# Altium integrated library Actel SX-A.IntLib: 434 symbols (part 10 of 34)
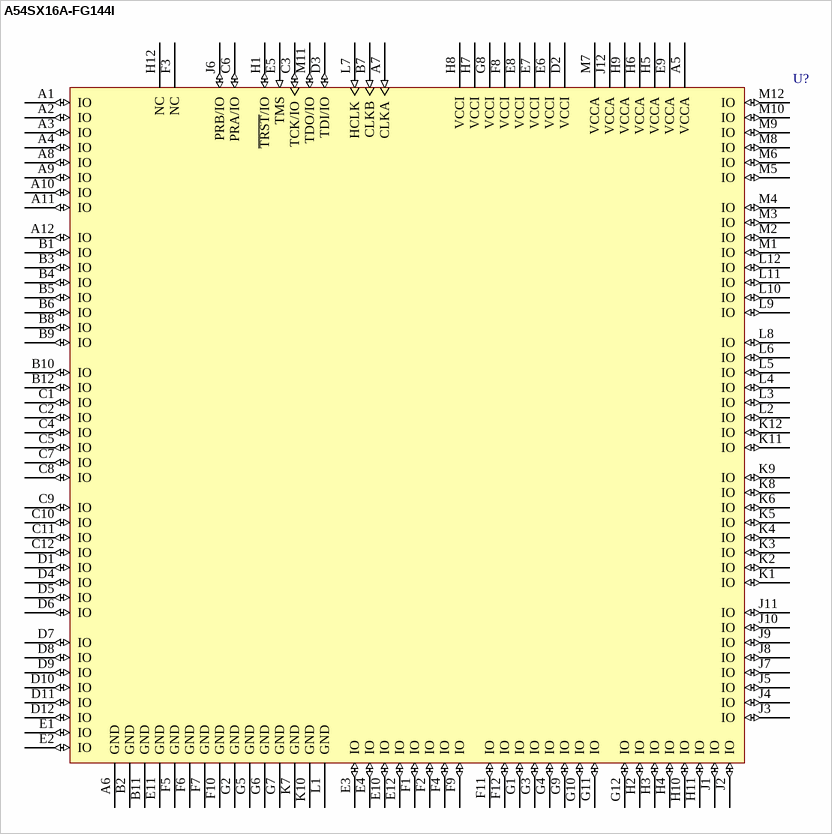
[diagram p330: symbol A54SX16A-FG144I]

## A54SX16A-FG144I
designator U?
A54SX16A FPGA, 111 User IOs, 144-Pin FBGA, Standard Speed Grade, Industrial Grade; DatasheetVersion: v5.3, Feb-2007; PackageVersion: rev39, Aug-2010; PackageReference: FG144; PackageDescription: 144-Ball Fine Pitch Plastic Ball Grid Array (FG144); Code_JEDEC: MO-192-DAD-1; ComponentLink1Description: Manufacturer URL; ComponentLink1URL: http://www.actel.com/; ComponentLink2Description: SX-A Datasheet; ComponentLink2URL: http://www.actel.com/documents/SXA_DS.pdf; ComponentLink3Description: Package Mechanical Drawings; ComponentLink3URL: http://www.actel.com/documents/PckgMechDrwngs.pdf; ComponentLink4Description: SX-A Documents; ComponentLink4URL: http://www.actel.com/products/proasicplus/docs.aspx
footprint FG144 (BGA, 144-Leads, Body 13x13mm, Pitch 1mm)
pins: A1 IO (io), A2 IO (io), A3 IO (io), A4 IO (io), A5 VCCA (power), A6 GND (power), A7 CLKA (in), A8 IO (io), A9 IO (io), A10 IO (io), A11 IO (io), A12 IO (io), B1 IO (io), B2 GND (power), B3 IO (io), B4 IO (io), B5 IO (io), B6 IO (io), B7 CLKB (in), B8 IO (io), B9 IO (io), B10 IO (io), B11 GND (power), B12 IO (io), C1 IO (io), C2 IO (io), C3 TCK/IO (io), C4 IO (io), C5 IO (io), C6 PRA/IO (io), C7 IO (io), C8 IO (io), C9 IO (io), C10 IO (io), C11 IO (io), C12 IO (io), D1 IO (io), D2 VCCI (power), D3 TDI/IO (io), D4 IO (io), D5 IO (io), D6 IO (io), D7 IO (io), D8 IO (io), D9 IO (io), D10 IO (io), D11 IO (io), D12 IO (io), E1 IO (io), E2 IO (io), E3 IO (io), E4 IO (io), E5 TMS (in), E6 VCCI (power), E7 VCCI (power), E8 VCCI (power), E9 VCCA (power), E10 IO (io), E11 GND (power), E12 IO (io), F1 IO (io), F2 IO (io), F3 NC, F4 IO (io), F5 GND (power), F6 GND (power), F7 GND (power), F8 VCCI (power), F9 IO (io), F10 GND (power), F11 IO (io), F12 IO (io), G1 IO (io), G2 GND (power), G3 IO (io), G4 IO (io), G5 GND (power), G6 GND (power), G7 GND (power), G8 VCCI (power), G9 IO (io), G10 IO (io), G11 IO (io), G12 IO (io), H1 ~{TRST}/IO (io), H2 IO (io), H3 IO (io), H4 IO (io), H5 VCCA (power), H6 VCCA (power), H7 VCCI (power), H8 VCCI (power), H9 VCCA (power), H10 IO (io), H11 IO (io), H12 NC, J1 IO (io), J2 IO (io), J3 IO (io), J4 IO (io), J5 IO (io), J6 PRB/IO (io), J7 IO (io), J8 IO (io), J9 IO (io), J10 IO (io), J11 IO (io), J12 VCCA (power), K1 IO (io), K2 IO (io), K3 IO (io), K4 IO (io), K5 IO (io), K6 IO (io), K7 GND (power), K8 IO (io), K9 IO (io), K10 GND (power), K11 IO (io), K12 IO (io), L1 GND (power), L2 IO (io), L3 IO (io), L4 IO (io), L5 IO (io), L6 IO (io), L7 HCLK (in), L8 IO (io), L9 IO (io), L10 IO (io), L11 IO (io), L12 IO (io), M1 IO (io), M2 IO (io), M3 IO (io), M4 IO (io), M5 IO (io), M6 IO (io), M7 VCCA (power), M8 IO (io), M9 IO (io), M10 IO (io), M11 TDO/IO (io), M12 IO (io)

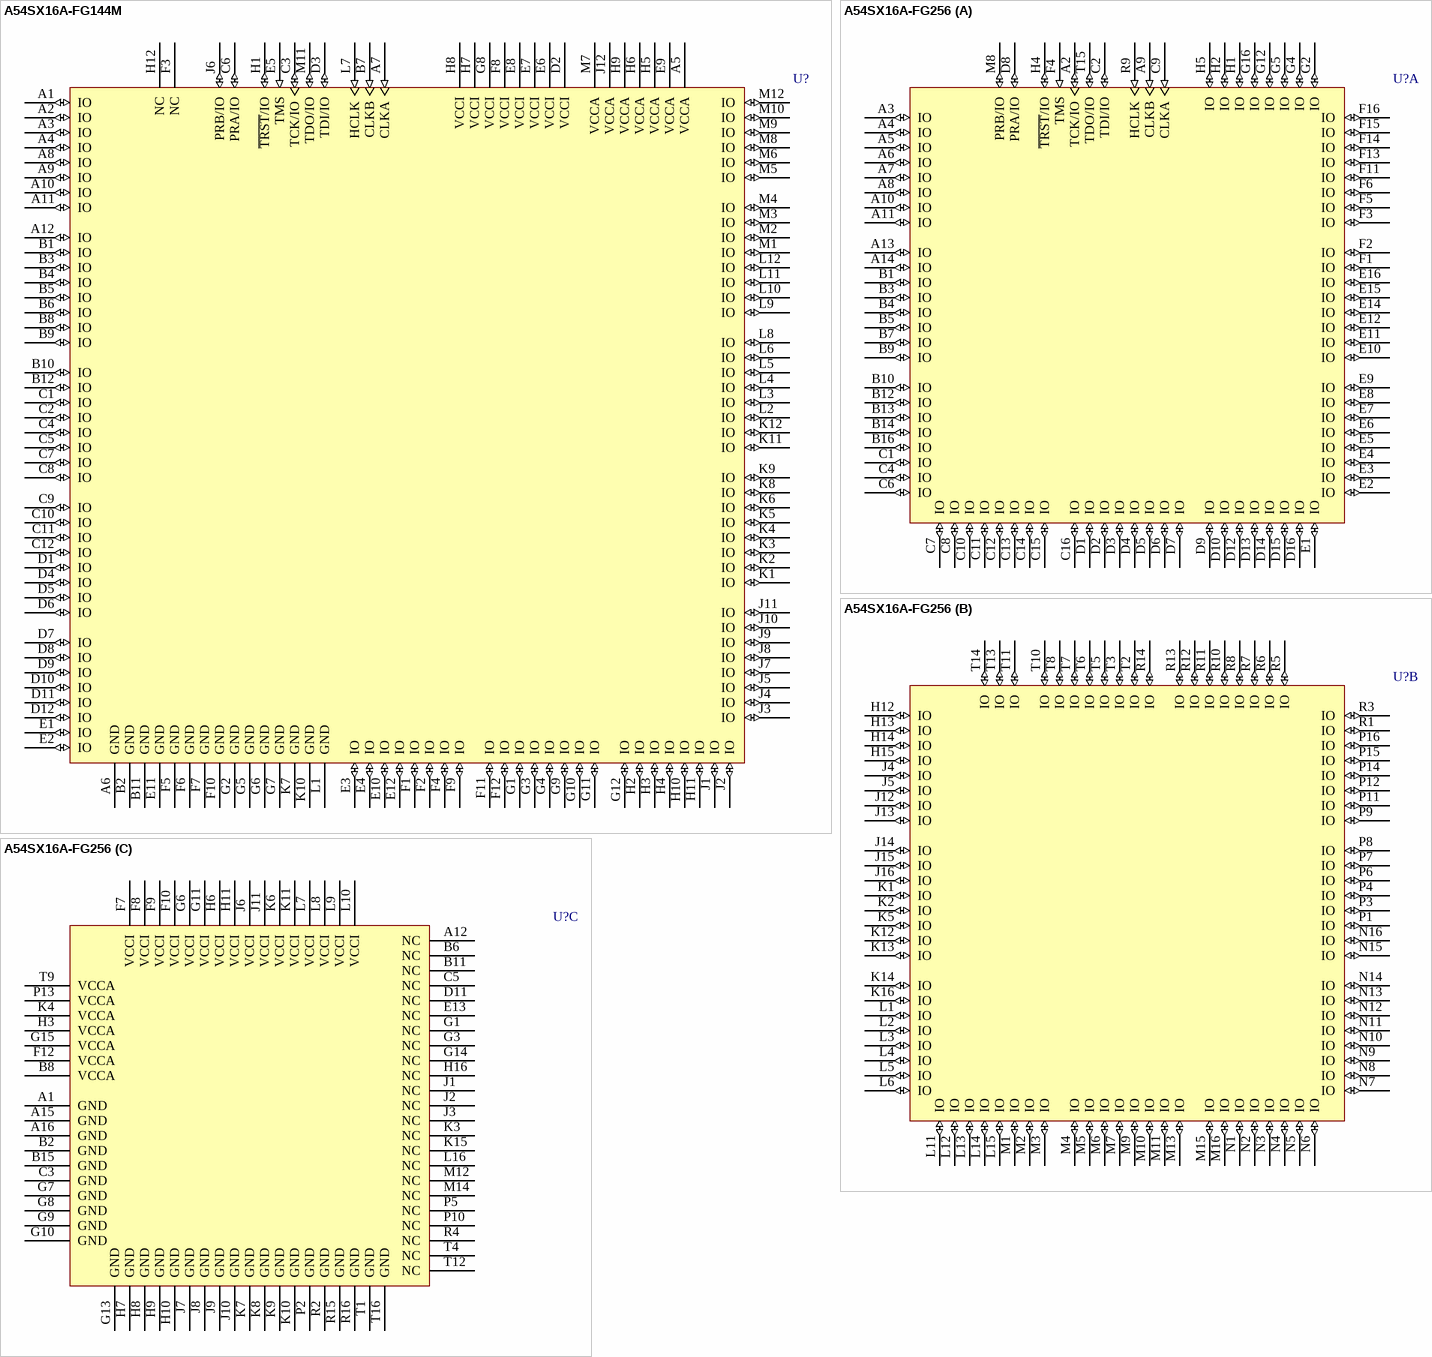
[diagram p96: symbols A54SX16A-FG144M to A54SX16A-FG256]

## A54SX16A-FG144M
designator U?
A54SX16A FPGA, 111 User IOs, 144-Pin FBGA, Standard Speed Grade, Military Grade; DatasheetVersion: v5.3, Feb-2007; PackageVersion: rev39, Aug-2010; PackageReference: FG144; PackageDescription: 144-Ball Fine Pitch Plastic Ball Grid Array (FG144); Code_JEDEC: MO-192-DAD-1; ComponentLink1Description: Manufacturer URL; ComponentLink1URL: http://www.actel.com/; ComponentLink2Description: SX-A Datasheet; ComponentLink2URL: http://www.actel.com/documents/SXA_DS.pdf; ComponentLink3Description: Package Mechanical Drawings; ComponentLink3URL: http://www.actel.com/documents/PckgMechDrwngs.pdf; ComponentLink4Description: SX-A Documents; ComponentLink4URL: http://www.actel.com/products/proasicplus/docs.aspx
footprint FG144 (BGA, 144-Leads, Body 13x13mm, Pitch 1mm)
pins: A1 IO (io), A2 IO (io), A3 IO (io), A4 IO (io), A5 VCCA (power), A6 GND (power), A7 CLKA (in), A8 IO (io), A9 IO (io), A10 IO (io), A11 IO (io), A12 IO (io), B1 IO (io), B2 GND (power), B3 IO (io), B4 IO (io), B5 IO (io), B6 IO (io), B7 CLKB (in), B8 IO (io), B9 IO (io), B10 IO (io), B11 GND (power), B12 IO (io), C1 IO (io), C2 IO (io), C3 TCK/IO (io), C4 IO (io), C5 IO (io), C6 PRA/IO (io), C7 IO (io), C8 IO (io), C9 IO (io), C10 IO (io), C11 IO (io), C12 IO (io), D1 IO (io), D2 VCCI (power), D3 TDI/IO (io), D4 IO (io), D5 IO (io), D6 IO (io), D7 IO (io), D8 IO (io), D9 IO (io), D10 IO (io), D11 IO (io), D12 IO (io), E1 IO (io), E2 IO (io), E3 IO (io), E4 IO (io), E5 TMS (in), E6 VCCI (power), E7 VCCI (power), E8 VCCI (power), E9 VCCA (power), E10 IO (io), E11 GND (power), E12 IO (io), F1 IO (io), F2 IO (io), F3 NC, F4 IO (io), F5 GND (power), F6 GND (power), F7 GND (power), F8 VCCI (power), F9 IO (io), F10 GND (power), F11 IO (io), F12 IO (io), G1 IO (io), G2 GND (power), G3 IO (io), G4 IO (io), G5 GND (power), G6 GND (power), G7 GND (power), G8 VCCI (power), G9 IO (io), G10 IO (io), G11 IO (io), G12 IO (io), H1 ~{TRST}/IO (io), H2 IO (io), H3 IO (io), H4 IO (io), H5 VCCA (power), H6 VCCA (power), H7 VCCI (power), H8 VCCI (power), H9 VCCA (power), H10 IO (io), H11 IO (io), H12 NC, J1 IO (io), J2 IO (io), J3 IO (io), J4 IO (io), J5 IO (io), J6 PRB/IO (io), J7 IO (io), J8 IO (io), J9 IO (io), J10 IO (io), J11 IO (io), J12 VCCA (power), K1 IO (io), K2 IO (io), K3 IO (io), K4 IO (io), K5 IO (io), K6 IO (io), K7 GND (power), K8 IO (io), K9 IO (io), K10 GND (power), K11 IO (io), K12 IO (io), L1 GND (power), L2 IO (io), L3 IO (io), L4 IO (io), L5 IO (io), L6 IO (io), L7 HCLK (in), L8 IO (io), L9 IO (io), L10 IO (io), L11 IO (io), L12 IO (io), M1 IO (io), M2 IO (io), M3 IO (io), M4 IO (io), M5 IO (io), M6 IO (io), M7 VCCA (power), M8 IO (io), M9 IO (io), M10 IO (io), M11 TDO/IO (io), M12 IO (io)

## A54SX16A-FG256
designator U?
A54SX16A FPGA, 180 User IOs, 256-Pin FBGA, Standard Speed Grade, Commercial Grade; DatasheetVersion: v5.3, Feb-2007; PackageVersion: rev39, Aug-2010; PackageReference: FBGA256; PackageDescription: 256-Ball Fine Pitch Plastic Ball Grid Array 1.00 mm Pitch (FG256); Code_JEDEC: MS-034-AAF-1; ComponentLink1Description: Manufacturer URL; ComponentLink1URL: http://www.actel.com/; ComponentLink2Description: SX-A Datasheet; ComponentLink2URL: http://www.actel.com/documents/SXA_DS.pdf; ComponentLink3Description: Package Mechanical Drawings; ComponentLink3URL: http://www.actel.com/documents/PckgMechDrwngs.pdf; ComponentLink4Description: SX-A Documents; ComponentLink4URL: http://www.actel.com/products/proasicplus/docs.aspx
footprint FBGA256 (BGA, 256-Leads, Body 17x17mm, Pitch 1mm)
part A pins: A2 TCK/IO (io), A3 IO (io), A4 IO (io), A5 IO (io), A6 IO (io), A7 IO (io), A8 IO (io), A9 CLKB (in), A10 IO (io), A11 IO (io), A13 IO (io), A14 IO (io), B1 IO (io), B3 IO (io), B4 IO (io), B5 IO (io), B7 IO (io), B9 IO (io), B10 IO (io), B12 IO (io), B13 IO (io), B14 IO (io), B16 IO (io), C1 IO (io), C2 TDI/IO (io), C4 IO (io), C6 IO (io), C7 IO (io), C8 IO (io), C9 CLKA (in), C10 IO (io), C11 IO (io), C12 IO (io), C13 IO (io), C14 IO (io), C15 IO (io), C16 IO (io), D1 IO (io), D2 IO (io), D3 IO (io), D4 IO (io), D5 IO (io), D6 IO (io), D7 IO (io), D8 PRA/IO (io), D9 IO (io), D10 IO (io), D12 IO (io), D13 IO (io), D14 IO (io), D15 IO (io), D16 IO (io), E1 IO (io), E2 IO (io), E3 IO (io), E4 IO (io), E5 IO (io), E6 IO (io), E7 IO (io), E8 IO (io), E9 IO (io), E10 IO (io), E11 IO (io), E12 IO (io), E14 IO (io), E15 IO (io), E16 IO (io), F1 IO (io), F2 IO (io), F3 IO (io), F4 TMS (in), F5 IO (io), F6 IO (io), F11 IO (io), F13 IO (io), F14 IO (io), F15 IO (io), F16 IO (io), G2 IO (io), G4 IO (io), G5 IO (io), G12 IO (io), G16 IO (io), H1 IO (io), H2 IO (io), H4 ~{TRST}/IO (io), H5 IO (io), M8 PRB/IO (io), R9 HCLK (in), T15 TDO/IO (io)
part B pins: H12 IO (io), H13 IO (io), H14 IO (io), H15 IO (io), J4 IO (io), J5 IO (io), J12 IO (io), J13 IO (io), J14 IO (io), J15 IO (io), J16 IO (io), K1 IO (io), K2 IO (io), K5 IO (io), K12 IO (io), K13 IO (io), K14 IO (io), K16 IO (io), L1 IO (io), L2 IO (io), L3 IO (io), L4 IO (io), L5 IO (io), L6 IO (io), L11 IO (io), L12 IO (io), L13 IO (io), L14 IO (io), L15 IO (io), M1 IO (io), M2 IO (io), M3 IO (io), M4 IO (io), M5 IO (io), M6 IO (io), M7 IO (io), M9 IO (io), M10 IO (io), M11 IO (io), M13 IO (io), M15 IO (io), M16 IO (io), N1 IO (io), N2 IO (io), N3 IO (io), N4 IO (io), N5 IO (io), N6 IO (io), N7 IO (io), N8 IO (io), N9 IO (io), N10 IO (io), N11 IO (io), N12 IO (io), N13 IO (io), N14 IO (io), N15 IO (io), N16 IO (io), P1 IO (io), P3 IO (io), P4 IO (io), P6 IO (io), P7 IO (io), P8 IO (io), P9 IO (io), P11 IO (io), P12 IO (io), P14 IO (io), P15 IO (io), P16 IO (io), R1 IO (io), R3 IO (io), R5 IO (io), R6 IO (io), R7 IO (io), R8 IO (io), R10 IO (io), R11 IO (io), R12 IO (io), R13 IO (io), R14 IO (io), T2 IO (io), T3 IO (io), T5 IO (io), T6 IO (io), T7 IO (io), T8 IO (io), T10 IO (io), T11 IO (io), T13 IO (io), T14 IO (io)
part C pins: A1 GND (power), A12 NC, A15 GND (power), A16 GND (power), B2 GND (power), B6 NC, B8 VCCA (power), B11 NC, B15 GND (power), C3 GND (power), C5 NC, D11 NC, E13 NC, F7 VCCI (power), F8 VCCI (power), F9 VCCI (power), F10 VCCI (power), F12 VCCA (power), G1 NC, G3 NC, G6 VCCI (power), G7 GND (power), G8 GND (power), G9 GND (power), G10 GND (power), G11 VCCI (power), G13 GND (power), G14 NC, G15 VCCA (power), H3 VCCA (power), H6 VCCI (power), H7 GND (power), H8 GND (power), H9 GND (power), H10 GND (power), H11 VCCI (power), H16 NC, J1 NC, J2 NC, J3 NC, J6 VCCI (power), J7 GND (power), J8 GND (power), J9 GND (power), J10 GND (power), J11 VCCI (power), K3 NC, K4 VCCA (power), K6 VCCI (power), K7 GND (power), K8 GND (power), K9 GND (power), K10 GND (power), K11 VCCI (power), K15 NC, L7 VCCI (power), L8 VCCI (power), L9 VCCI (power), L10 VCCI (power), L16 NC, M12 NC, M14 NC, P2 GND (power), P5 NC, P10 NC, P13 VCCA (power), R2 GND (power), R4 NC, R15 GND (power), R16 GND (power), T1 GND (power), T4 NC, T9 VCCA (power), T12 NC, T16 GND (power)

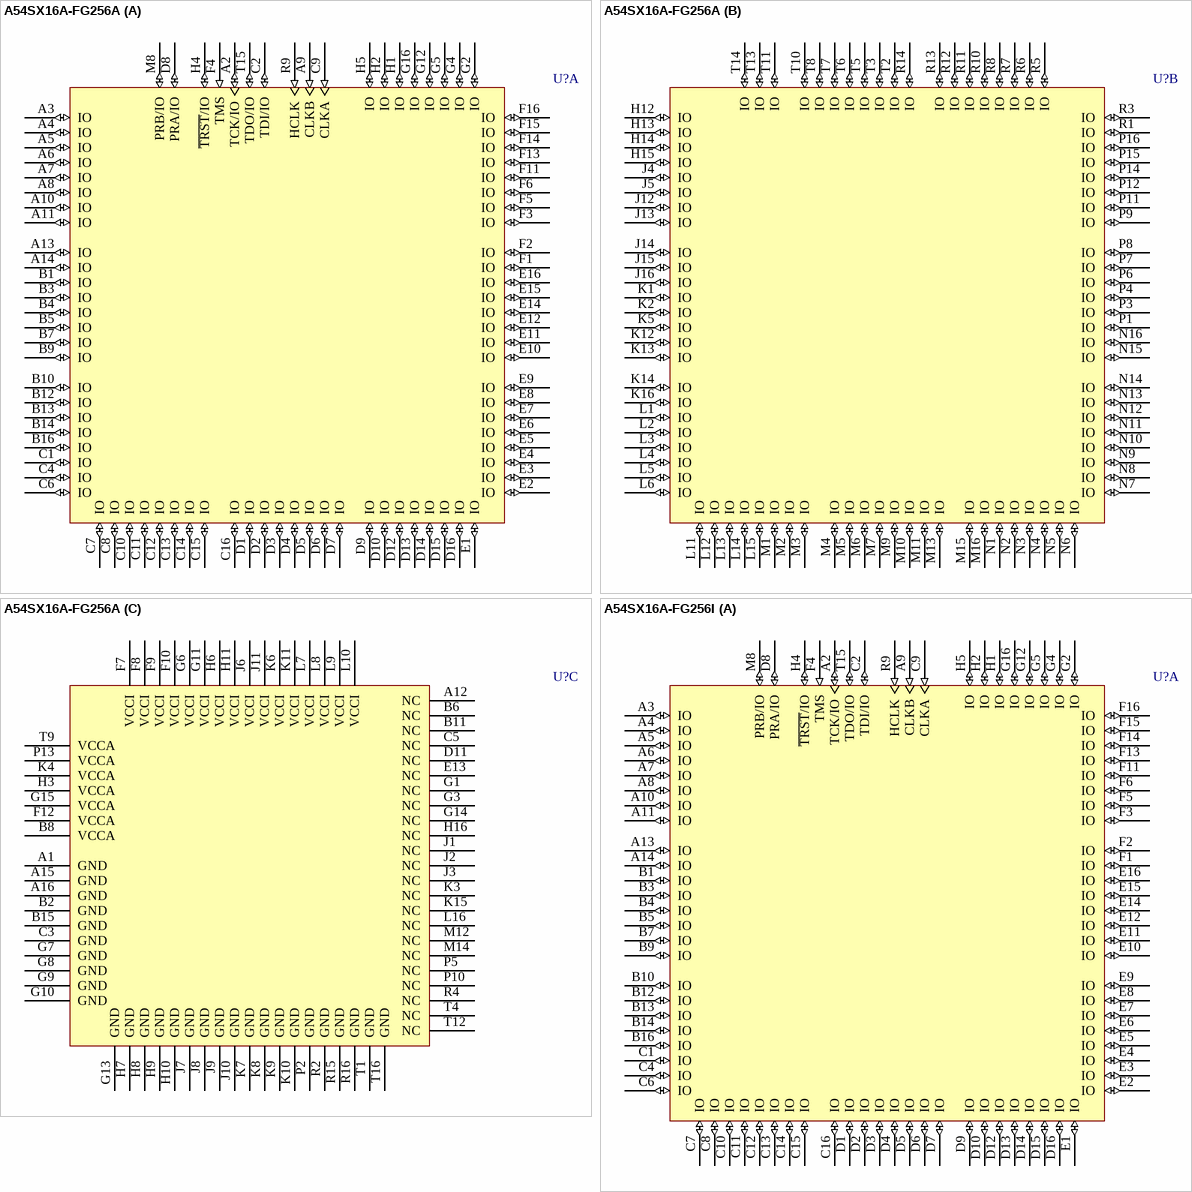
[diagram p97: symbols A54SX16A-FG256A to A54SX16A-FG256I]

## A54SX16A-FG256A
designator U?
A54SX16A FPGA, 180 User IOs, 256-Pin FBGA, Standard Speed Grade, Automotive Grade; DatasheetVersion: v5.3, Feb-2007; PackageVersion: rev39, Aug-2010; PackageReference: FBGA256; PackageDescription: 256-Ball Fine Pitch Plastic Ball Grid Array 1.00 mm Pitch (FG256); Code_JEDEC: MS-034-AAF-1; ComponentLink1Description: Manufacturer URL; ComponentLink1URL: http://www.actel.com/; ComponentLink2Description: SX-A Datasheet; ComponentLink2URL: http://www.actel.com/documents/SXA_DS.pdf; ComponentLink3Description: Package Mechanical Drawings; ComponentLink3URL: http://www.actel.com/documents/PckgMechDrwngs.pdf; ComponentLink4Description: SX-A Documents; ComponentLink4URL: http://www.actel.com/products/proasicplus/docs.aspx
footprint FBGA256 (BGA, 256-Leads, Body 17x17mm, Pitch 1mm)
part A pins: A2 TCK/IO (io), A3 IO (io), A4 IO (io), A5 IO (io), A6 IO (io), A7 IO (io), A8 IO (io), A9 CLKB (in), A10 IO (io), A11 IO (io), A13 IO (io), A14 IO (io), B1 IO (io), B3 IO (io), B4 IO (io), B5 IO (io), B7 IO (io), B9 IO (io), B10 IO (io), B12 IO (io), B13 IO (io), B14 IO (io), B16 IO (io), C1 IO (io), C2 TDI/IO (io), C4 IO (io), C6 IO (io), C7 IO (io), C8 IO (io), C9 CLKA (in), C10 IO (io), C11 IO (io), C12 IO (io), C13 IO (io), C14 IO (io), C15 IO (io), C16 IO (io), D1 IO (io), D2 IO (io), D3 IO (io), D4 IO (io), D5 IO (io), D6 IO (io), D7 IO (io), D8 PRA/IO (io), D9 IO (io), D10 IO (io), D12 IO (io), D13 IO (io), D14 IO (io), D15 IO (io), D16 IO (io), E1 IO (io), E2 IO (io), E3 IO (io), E4 IO (io), E5 IO (io), E6 IO (io), E7 IO (io), E8 IO (io), E9 IO (io), E10 IO (io), E11 IO (io), E12 IO (io), E14 IO (io), E15 IO (io), E16 IO (io), F1 IO (io), F2 IO (io), F3 IO (io), F4 TMS (in), F5 IO (io), F6 IO (io), F11 IO (io), F13 IO (io), F14 IO (io), F15 IO (io), F16 IO (io), G2 IO (io), G4 IO (io), G5 IO (io), G12 IO (io), G16 IO (io), H1 IO (io), H2 IO (io), H4 ~{TRST}/IO (io), H5 IO (io), M8 PRB/IO (io), R9 HCLK (in), T15 TDO/IO (io)
part B pins: H12 IO (io), H13 IO (io), H14 IO (io), H15 IO (io), J4 IO (io), J5 IO (io), J12 IO (io), J13 IO (io), J14 IO (io), J15 IO (io), J16 IO (io), K1 IO (io), K2 IO (io), K5 IO (io), K12 IO (io), K13 IO (io), K14 IO (io), K16 IO (io), L1 IO (io), L2 IO (io), L3 IO (io), L4 IO (io), L5 IO (io), L6 IO (io), L11 IO (io), L12 IO (io), L13 IO (io), L14 IO (io), L15 IO (io), M1 IO (io), M2 IO (io), M3 IO (io), M4 IO (io), M5 IO (io), M6 IO (io), M7 IO (io), M9 IO (io), M10 IO (io), M11 IO (io), M13 IO (io), M15 IO (io), M16 IO (io), N1 IO (io), N2 IO (io), N3 IO (io), N4 IO (io), N5 IO (io), N6 IO (io), N7 IO (io), N8 IO (io), N9 IO (io), N10 IO (io), N11 IO (io), N12 IO (io), N13 IO (io), N14 IO (io), N15 IO (io), N16 IO (io), P1 IO (io), P3 IO (io), P4 IO (io), P6 IO (io), P7 IO (io), P8 IO (io), P9 IO (io), P11 IO (io), P12 IO (io), P14 IO (io), P15 IO (io), P16 IO (io), R1 IO (io), R3 IO (io), R5 IO (io), R6 IO (io), R7 IO (io), R8 IO (io), R10 IO (io), R11 IO (io), R12 IO (io), R13 IO (io), R14 IO (io), T2 IO (io), T3 IO (io), T5 IO (io), T6 IO (io), T7 IO (io), T8 IO (io), T10 IO (io), T11 IO (io), T13 IO (io), T14 IO (io)
part C pins: A1 GND (power), A12 NC, A15 GND (power), A16 GND (power), B2 GND (power), B6 NC, B8 VCCA (power), B11 NC, B15 GND (power), C3 GND (power), C5 NC, D11 NC, E13 NC, F7 VCCI (power), F8 VCCI (power), F9 VCCI (power), F10 VCCI (power), F12 VCCA (power), G1 NC, G3 NC, G6 VCCI (power), G7 GND (power), G8 GND (power), G9 GND (power), G10 GND (power), G11 VCCI (power), G13 GND (power), G14 NC, G15 VCCA (power), H3 VCCA (power), H6 VCCI (power), H7 GND (power), H8 GND (power), H9 GND (power), H10 GND (power), H11 VCCI (power), H16 NC, J1 NC, J2 NC, J3 NC, J6 VCCI (power), J7 GND (power), J8 GND (power), J9 GND (power), J10 GND (power), J11 VCCI (power), K3 NC, K4 VCCA (power), K6 VCCI (power), K7 GND (power), K8 GND (power), K9 GND (power), K10 GND (power), K11 VCCI (power), K15 NC, L7 VCCI (power), L8 VCCI (power), L9 VCCI (power), L10 VCCI (power), L16 NC, M12 NC, M14 NC, P2 GND (power), P5 NC, P10 NC, P13 VCCA (power), R2 GND (power), R4 NC, R15 GND (power), R16 GND (power), T1 GND (power), T4 NC, T9 VCCA (power), T12 NC, T16 GND (power)

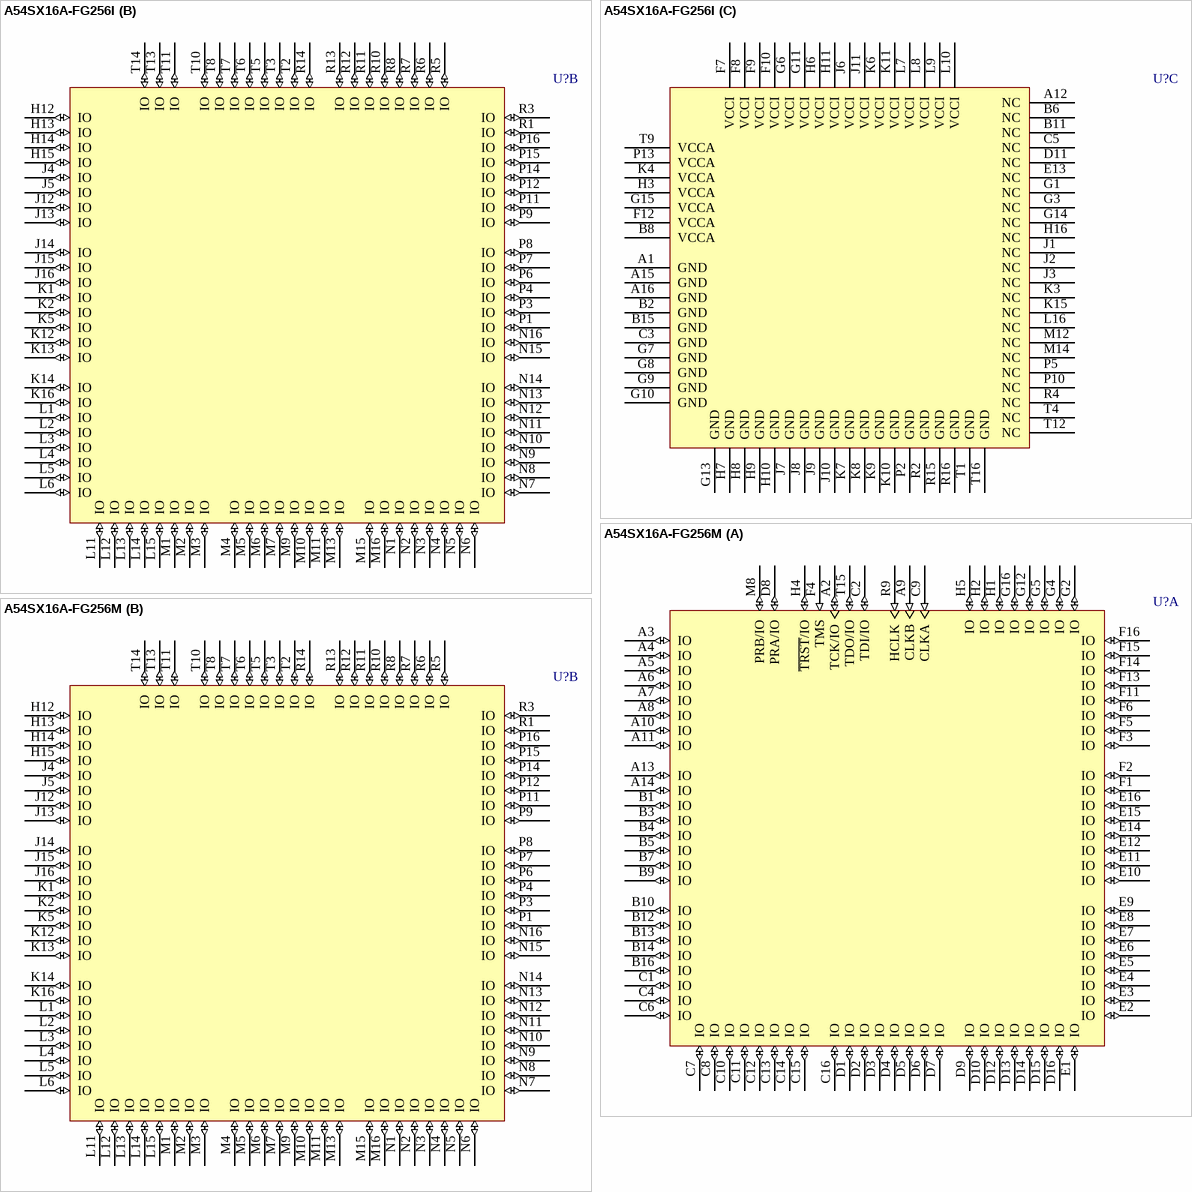
[diagram p98: symbols A54SX16A-FG256I to A54SX16A-FG256M]

## A54SX16A-FG256I
designator U?
A54SX16A FPGA, 180 User IOs, 256-Pin FBGA, Standard Speed Grade, Industrial Grade; DatasheetVersion: v5.3, Feb-2007; PackageVersion: rev39, Aug-2010; PackageReference: FBGA256; PackageDescription: 256-Ball Fine Pitch Plastic Ball Grid Array 1.00 mm Pitch (FG256); Code_JEDEC: MS-034-AAF-1; ComponentLink1Description: Manufacturer URL; ComponentLink1URL: http://www.actel.com/; ComponentLink2Description: SX-A Datasheet; ComponentLink2URL: http://www.actel.com/documents/SXA_DS.pdf; ComponentLink3Description: Package Mechanical Drawings; ComponentLink3URL: http://www.actel.com/documents/PckgMechDrwngs.pdf; ComponentLink4Description: SX-A Documents; ComponentLink4URL: http://www.actel.com/products/proasicplus/docs.aspx
footprint FBGA256 (BGA, 256-Leads, Body 17x17mm, Pitch 1mm)
part A pins: A2 TCK/IO (io), A3 IO (io), A4 IO (io), A5 IO (io), A6 IO (io), A7 IO (io), A8 IO (io), A9 CLKB (in), A10 IO (io), A11 IO (io), A13 IO (io), A14 IO (io), B1 IO (io), B3 IO (io), B4 IO (io), B5 IO (io), B7 IO (io), B9 IO (io), B10 IO (io), B12 IO (io), B13 IO (io), B14 IO (io), B16 IO (io), C1 IO (io), C2 TDI/IO (io), C4 IO (io), C6 IO (io), C7 IO (io), C8 IO (io), C9 CLKA (in), C10 IO (io), C11 IO (io), C12 IO (io), C13 IO (io), C14 IO (io), C15 IO (io), C16 IO (io), D1 IO (io), D2 IO (io), D3 IO (io), D4 IO (io), D5 IO (io), D6 IO (io), D7 IO (io), D8 PRA/IO (io), D9 IO (io), D10 IO (io), D12 IO (io), D13 IO (io), D14 IO (io), D15 IO (io), D16 IO (io), E1 IO (io), E2 IO (io), E3 IO (io), E4 IO (io), E5 IO (io), E6 IO (io), E7 IO (io), E8 IO (io), E9 IO (io), E10 IO (io), E11 IO (io), E12 IO (io), E14 IO (io), E15 IO (io), E16 IO (io), F1 IO (io), F2 IO (io), F3 IO (io), F4 TMS (in), F5 IO (io), F6 IO (io), F11 IO (io), F13 IO (io), F14 IO (io), F15 IO (io), F16 IO (io), G2 IO (io), G4 IO (io), G5 IO (io), G12 IO (io), G16 IO (io), H1 IO (io), H2 IO (io), H4 ~{TRST}/IO (io), H5 IO (io), M8 PRB/IO (io), R9 HCLK (in), T15 TDO/IO (io)
part B pins: H12 IO (io), H13 IO (io), H14 IO (io), H15 IO (io), J4 IO (io), J5 IO (io), J12 IO (io), J13 IO (io), J14 IO (io), J15 IO (io), J16 IO (io), K1 IO (io), K2 IO (io), K5 IO (io), K12 IO (io), K13 IO (io), K14 IO (io), K16 IO (io), L1 IO (io), L2 IO (io), L3 IO (io), L4 IO (io), L5 IO (io), L6 IO (io), L11 IO (io), L12 IO (io), L13 IO (io), L14 IO (io), L15 IO (io), M1 IO (io), M2 IO (io), M3 IO (io), M4 IO (io), M5 IO (io), M6 IO (io), M7 IO (io), M9 IO (io), M10 IO (io), M11 IO (io), M13 IO (io), M15 IO (io), M16 IO (io), N1 IO (io), N2 IO (io), N3 IO (io), N4 IO (io), N5 IO (io), N6 IO (io), N7 IO (io), N8 IO (io), N9 IO (io), N10 IO (io), N11 IO (io), N12 IO (io), N13 IO (io), N14 IO (io), N15 IO (io), N16 IO (io), P1 IO (io), P3 IO (io), P4 IO (io), P6 IO (io), P7 IO (io), P8 IO (io), P9 IO (io), P11 IO (io), P12 IO (io), P14 IO (io), P15 IO (io), P16 IO (io), R1 IO (io), R3 IO (io), R5 IO (io), R6 IO (io), R7 IO (io), R8 IO (io), R10 IO (io), R11 IO (io), R12 IO (io), R13 IO (io), R14 IO (io), T2 IO (io), T3 IO (io), T5 IO (io), T6 IO (io), T7 IO (io), T8 IO (io), T10 IO (io), T11 IO (io), T13 IO (io), T14 IO (io)
part C pins: A1 GND (power), A12 NC, A15 GND (power), A16 GND (power), B2 GND (power), B6 NC, B8 VCCA (power), B11 NC, B15 GND (power), C3 GND (power), C5 NC, D11 NC, E13 NC, F7 VCCI (power), F8 VCCI (power), F9 VCCI (power), F10 VCCI (power), F12 VCCA (power), G1 NC, G3 NC, G6 VCCI (power), G7 GND (power), G8 GND (power), G9 GND (power), G10 GND (power), G11 VCCI (power), G13 GND (power), G14 NC, G15 VCCA (power), H3 VCCA (power), H6 VCCI (power), H7 GND (power), H8 GND (power), H9 GND (power), H10 GND (power), H11 VCCI (power), H16 NC, J1 NC, J2 NC, J3 NC, J6 VCCI (power), J7 GND (power), J8 GND (power), J9 GND (power), J10 GND (power), J11 VCCI (power), K3 NC, K4 VCCA (power), K6 VCCI (power), K7 GND (power), K8 GND (power), K9 GND (power), K10 GND (power), K11 VCCI (power), K15 NC, L7 VCCI (power), L8 VCCI (power), L9 VCCI (power), L10 VCCI (power), L16 NC, M12 NC, M14 NC, P2 GND (power), P5 NC, P10 NC, P13 VCCA (power), R2 GND (power), R4 NC, R15 GND (power), R16 GND (power), T1 GND (power), T4 NC, T9 VCCA (power), T12 NC, T16 GND (power)

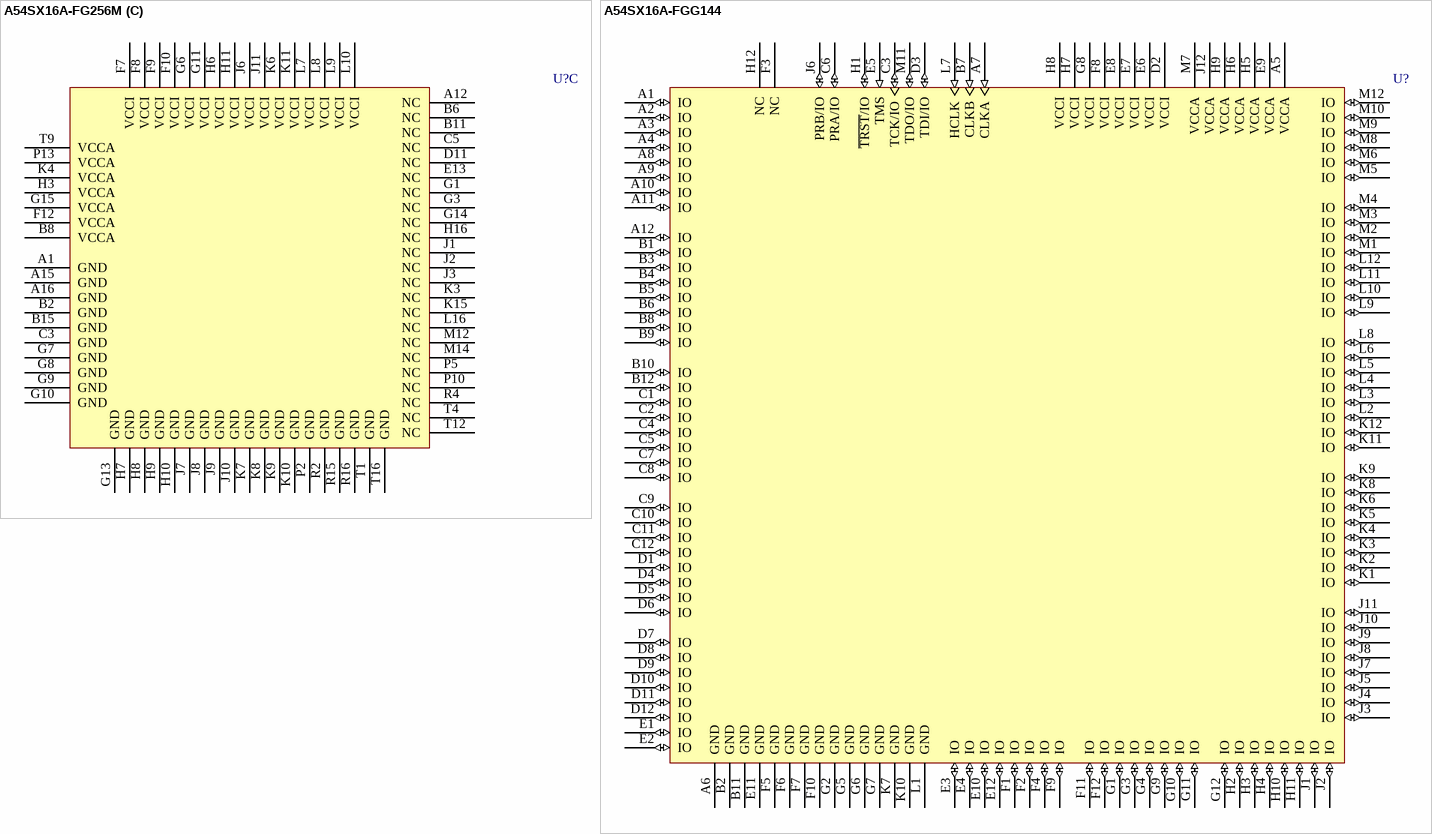
[diagram p99: symbols A54SX16A-FG256M to A54SX16A-FGG144]

## A54SX16A-FG256M
designator U?
A54SX16A FPGA, 180 User IOs, 256-Pin FBGA, Standard Speed Grade, Military Grade; DatasheetVersion: v5.3, Feb-2007; PackageVersion: rev39, Aug-2010; PackageReference: FBGA256; PackageDescription: 256-Ball Fine Pitch Plastic Ball Grid Array 1.00 mm Pitch (FG256); Code_JEDEC: MS-034-AAF-1; ComponentLink1Description: Manufacturer URL; ComponentLink1URL: http://www.actel.com/; ComponentLink2Description: SX-A Datasheet; ComponentLink2URL: http://www.actel.com/documents/SXA_DS.pdf; ComponentLink3Description: Package Mechanical Drawings; ComponentLink3URL: http://www.actel.com/documents/PckgMechDrwngs.pdf; ComponentLink4Description: SX-A Documents; ComponentLink4URL: http://www.actel.com/products/proasicplus/docs.aspx
footprint FBGA256 (BGA, 256-Leads, Body 17x17mm, Pitch 1mm)
part A pins: A2 TCK/IO (io), A3 IO (io), A4 IO (io), A5 IO (io), A6 IO (io), A7 IO (io), A8 IO (io), A9 CLKB (in), A10 IO (io), A11 IO (io), A13 IO (io), A14 IO (io), B1 IO (io), B3 IO (io), B4 IO (io), B5 IO (io), B7 IO (io), B9 IO (io), B10 IO (io), B12 IO (io), B13 IO (io), B14 IO (io), B16 IO (io), C1 IO (io), C2 TDI/IO (io), C4 IO (io), C6 IO (io), C7 IO (io), C8 IO (io), C9 CLKA (in), C10 IO (io), C11 IO (io), C12 IO (io), C13 IO (io), C14 IO (io), C15 IO (io), C16 IO (io), D1 IO (io), D2 IO (io), D3 IO (io), D4 IO (io), D5 IO (io), D6 IO (io), D7 IO (io), D8 PRA/IO (io), D9 IO (io), D10 IO (io), D12 IO (io), D13 IO (io), D14 IO (io), D15 IO (io), D16 IO (io), E1 IO (io), E2 IO (io), E3 IO (io), E4 IO (io), E5 IO (io), E6 IO (io), E7 IO (io), E8 IO (io), E9 IO (io), E10 IO (io), E11 IO (io), E12 IO (io), E14 IO (io), E15 IO (io), E16 IO (io), F1 IO (io), F2 IO (io), F3 IO (io), F4 TMS (in), F5 IO (io), F6 IO (io), F11 IO (io), F13 IO (io), F14 IO (io), F15 IO (io), F16 IO (io), G2 IO (io), G4 IO (io), G5 IO (io), G12 IO (io), G16 IO (io), H1 IO (io), H2 IO (io), H4 ~{TRST}/IO (io), H5 IO (io), M8 PRB/IO (io), R9 HCLK (in), T15 TDO/IO (io)
part B pins: H12 IO (io), H13 IO (io), H14 IO (io), H15 IO (io), J4 IO (io), J5 IO (io), J12 IO (io), J13 IO (io), J14 IO (io), J15 IO (io), J16 IO (io), K1 IO (io), K2 IO (io), K5 IO (io), K12 IO (io), K13 IO (io), K14 IO (io), K16 IO (io), L1 IO (io), L2 IO (io), L3 IO (io), L4 IO (io), L5 IO (io), L6 IO (io), L11 IO (io), L12 IO (io), L13 IO (io), L14 IO (io), L15 IO (io), M1 IO (io), M2 IO (io), M3 IO (io), M4 IO (io), M5 IO (io), M6 IO (io), M7 IO (io), M9 IO (io), M10 IO (io), M11 IO (io), M13 IO (io), M15 IO (io), M16 IO (io), N1 IO (io), N2 IO (io), N3 IO (io), N4 IO (io), N5 IO (io), N6 IO (io), N7 IO (io), N8 IO (io), N9 IO (io), N10 IO (io), N11 IO (io), N12 IO (io), N13 IO (io), N14 IO (io), N15 IO (io), N16 IO (io), P1 IO (io), P3 IO (io), P4 IO (io), P6 IO (io), P7 IO (io), P8 IO (io), P9 IO (io), P11 IO (io), P12 IO (io), P14 IO (io), P15 IO (io), P16 IO (io), R1 IO (io), R3 IO (io), R5 IO (io), R6 IO (io), R7 IO (io), R8 IO (io), R10 IO (io), R11 IO (io), R12 IO (io), R13 IO (io), R14 IO (io), T2 IO (io), T3 IO (io), T5 IO (io), T6 IO (io), T7 IO (io), T8 IO (io), T10 IO (io), T11 IO (io), T13 IO (io), T14 IO (io)
part C pins: A1 GND (power), A12 NC, A15 GND (power), A16 GND (power), B2 GND (power), B6 NC, B8 VCCA (power), B11 NC, B15 GND (power), C3 GND (power), C5 NC, D11 NC, E13 NC, F7 VCCI (power), F8 VCCI (power), F9 VCCI (power), F10 VCCI (power), F12 VCCA (power), G1 NC, G3 NC, G6 VCCI (power), G7 GND (power), G8 GND (power), G9 GND (power), G10 GND (power), G11 VCCI (power), G13 GND (power), G14 NC, G15 VCCA (power), H3 VCCA (power), H6 VCCI (power), H7 GND (power), H8 GND (power), H9 GND (power), H10 GND (power), H11 VCCI (power), H16 NC, J1 NC, J2 NC, J3 NC, J6 VCCI (power), J7 GND (power), J8 GND (power), J9 GND (power), J10 GND (power), J11 VCCI (power), K3 NC, K4 VCCA (power), K6 VCCI (power), K7 GND (power), K8 GND (power), K9 GND (power), K10 GND (power), K11 VCCI (power), K15 NC, L7 VCCI (power), L8 VCCI (power), L9 VCCI (power), L10 VCCI (power), L16 NC, M12 NC, M14 NC, P2 GND (power), P5 NC, P10 NC, P13 VCCA (power), R2 GND (power), R4 NC, R15 GND (power), R16 GND (power), T1 GND (power), T4 NC, T9 VCCA (power), T12 NC, T16 GND (power)

## A54SX16A-FGG144
designator U?
A54SX16A FPGA, 111 User IOs, 144-Pin FBGA, Standard Speed Grade, Commercial Grade, Pb-Free; DatasheetVersion: v5.3, Feb-2007; PackageVersion: rev39, Aug-2010; PackageReference: FG144; PackageDescription: 144-Ball Fine Pitch Plastic Ball Grid Array (FG144); Code_JEDEC: MO-192-DAD-1; ComponentLink1Description: Manufacturer URL; ComponentLink1URL: http://www.actel.com/; ComponentLink2Description: SX-A Datasheet; ComponentLink2URL: http://www.actel.com/documents/SXA_DS.pdf; ComponentLink3Description: Package Mechanical Drawings; ComponentLink3URL: http://www.actel.com/documents/PckgMechDrwngs.pdf; ComponentLink4Description: SX-A Documents; ComponentLink4URL: http://www.actel.com/products/proasicplus/docs.aspx
footprint FG144 (BGA, 144-Leads, Body 13x13mm, Pitch 1mm)
pins: A1 IO (io), A2 IO (io), A3 IO (io), A4 IO (io), A5 VCCA (power), A6 GND (power), A7 CLKA (in), A8 IO (io), A9 IO (io), A10 IO (io), A11 IO (io), A12 IO (io), B1 IO (io), B2 GND (power), B3 IO (io), B4 IO (io), B5 IO (io), B6 IO (io), B7 CLKB (in), B8 IO (io), B9 IO (io), B10 IO (io), B11 GND (power), B12 IO (io), C1 IO (io), C2 IO (io), C3 TCK/IO (io), C4 IO (io), C5 IO (io), C6 PRA/IO (io), C7 IO (io), C8 IO (io), C9 IO (io), C10 IO (io), C11 IO (io), C12 IO (io), D1 IO (io), D2 VCCI (power), D3 TDI/IO (io), D4 IO (io), D5 IO (io), D6 IO (io), D7 IO (io), D8 IO (io), D9 IO (io), D10 IO (io), D11 IO (io), D12 IO (io), E1 IO (io), E2 IO (io), E3 IO (io), E4 IO (io), E5 TMS (in), E6 VCCI (power), E7 VCCI (power), E8 VCCI (power), E9 VCCA (power), E10 IO (io), E11 GND (power), E12 IO (io), F1 IO (io), F2 IO (io), F3 NC, F4 IO (io), F5 GND (power), F6 GND (power), F7 GND (power), F8 VCCI (power), F9 IO (io), F10 GND (power), F11 IO (io), F12 IO (io), G1 IO (io), G2 GND (power), G3 IO (io), G4 IO (io), G5 GND (power), G6 GND (power), G7 GND (power), G8 VCCI (power), G9 IO (io), G10 IO (io), G11 IO (io), G12 IO (io), H1 ~{TRST}/IO (io), H2 IO (io), H3 IO (io), H4 IO (io), H5 VCCA (power), H6 VCCA (power), H7 VCCI (power), H8 VCCI (power), H9 VCCA (power), H10 IO (io), H11 IO (io), H12 NC, J1 IO (io), J2 IO (io), J3 IO (io), J4 IO (io), J5 IO (io), J6 PRB/IO (io), J7 IO (io), J8 IO (io), J9 IO (io), J10 IO (io), J11 IO (io), J12 VCCA (power), K1 IO (io), K2 IO (io), K3 IO (io), K4 IO (io), K5 IO (io), K6 IO (io), K7 GND (power), K8 IO (io), K9 IO (io), K10 GND (power), K11 IO (io), K12 IO (io), L1 GND (power), L2 IO (io), L3 IO (io), L4 IO (io), L5 IO (io), L6 IO (io), L7 HCLK (in), L8 IO (io), L9 IO (io), L10 IO (io), L11 IO (io), L12 IO (io), M1 IO (io), M2 IO (io), M3 IO (io), M4 IO (io), M5 IO (io), M6 IO (io), M7 VCCA (power), M8 IO (io), M9 IO (io), M10 IO (io), M11 TDO/IO (io), M12 IO (io)

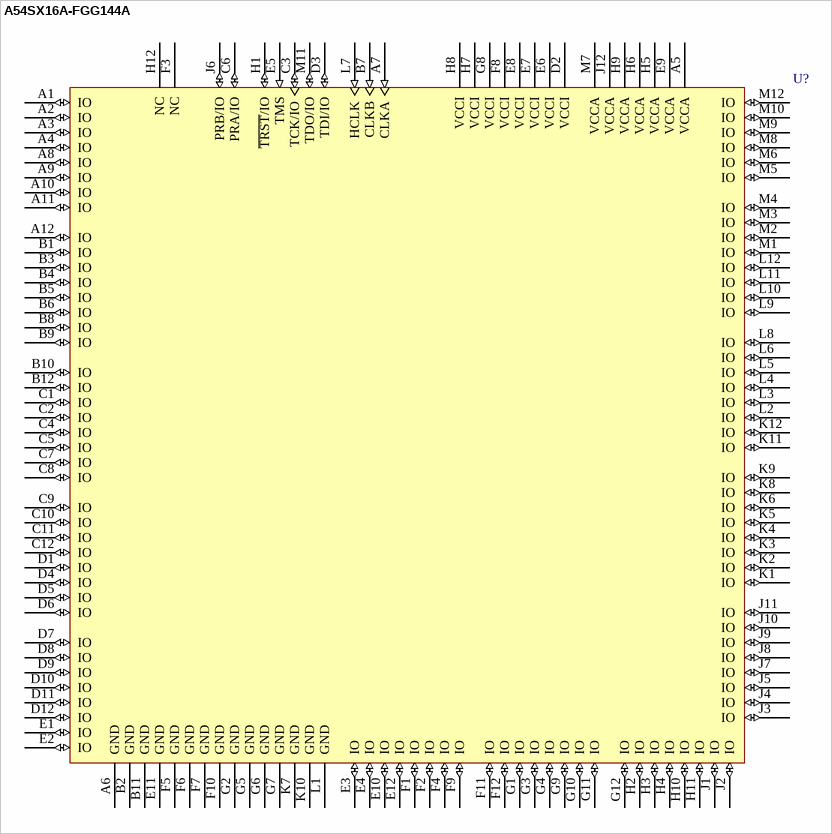
[diagram p100: symbol A54SX16A-FGG144A]

## A54SX16A-FGG144A
designator U?
A54SX16A FPGA, 111 User IOs, 144-Pin FBGA, Standard Speed Grade, Automotive Grade, Pb-Free; DatasheetVersion: v5.3, Feb-2007; PackageVersion: rev39, Aug-2010; PackageReference: FG144; PackageDescription: 144-Ball Fine Pitch Plastic Ball Grid Array (FG144); Code_JEDEC: MO-192-DAD-1; ComponentLink1Description: Manufacturer URL; ComponentLink1URL: http://www.actel.com/; ComponentLink2Description: SX-A Datasheet; ComponentLink2URL: http://www.actel.com/documents/SXA_DS.pdf; ComponentLink3Description: Package Mechanical Drawings; ComponentLink3URL: http://www.actel.com/documents/PckgMechDrwngs.pdf; ComponentLink4Description: SX-A Documents; ComponentLink4URL: http://www.actel.com/products/proasicplus/docs.aspx
footprint FG144 (BGA, 144-Leads, Body 13x13mm, Pitch 1mm)
pins: A1 IO (io), A2 IO (io), A3 IO (io), A4 IO (io), A5 VCCA (power), A6 GND (power), A7 CLKA (in), A8 IO (io), A9 IO (io), A10 IO (io), A11 IO (io), A12 IO (io), B1 IO (io), B2 GND (power), B3 IO (io), B4 IO (io), B5 IO (io), B6 IO (io), B7 CLKB (in), B8 IO (io), B9 IO (io), B10 IO (io), B11 GND (power), B12 IO (io), C1 IO (io), C2 IO (io), C3 TCK/IO (io), C4 IO (io), C5 IO (io), C6 PRA/IO (io), C7 IO (io), C8 IO (io), C9 IO (io), C10 IO (io), C11 IO (io), C12 IO (io), D1 IO (io), D2 VCCI (power), D3 TDI/IO (io), D4 IO (io), D5 IO (io), D6 IO (io), D7 IO (io), D8 IO (io), D9 IO (io), D10 IO (io), D11 IO (io), D12 IO (io), E1 IO (io), E2 IO (io), E3 IO (io), E4 IO (io), E5 TMS (in), E6 VCCI (power), E7 VCCI (power), E8 VCCI (power), E9 VCCA (power), E10 IO (io), E11 GND (power), E12 IO (io), F1 IO (io), F2 IO (io), F3 NC, F4 IO (io), F5 GND (power), F6 GND (power), F7 GND (power), F8 VCCI (power), F9 IO (io), F10 GND (power), F11 IO (io), F12 IO (io), G1 IO (io), G2 GND (power), G3 IO (io), G4 IO (io), G5 GND (power), G6 GND (power), G7 GND (power), G8 VCCI (power), G9 IO (io), G10 IO (io), G11 IO (io), G12 IO (io), H1 ~{TRST}/IO (io), H2 IO (io), H3 IO (io), H4 IO (io), H5 VCCA (power), H6 VCCA (power), H7 VCCI (power), H8 VCCI (power), H9 VCCA (power), H10 IO (io), H11 IO (io), H12 NC, J1 IO (io), J2 IO (io), J3 IO (io), J4 IO (io), J5 IO (io), J6 PRB/IO (io), J7 IO (io), J8 IO (io), J9 IO (io), J10 IO (io), J11 IO (io), J12 VCCA (power), K1 IO (io), K2 IO (io), K3 IO (io), K4 IO (io), K5 IO (io), K6 IO (io), K7 GND (power), K8 IO (io), K9 IO (io), K10 GND (power), K11 IO (io), K12 IO (io), L1 GND (power), L2 IO (io), L3 IO (io), L4 IO (io), L5 IO (io), L6 IO (io), L7 HCLK (in), L8 IO (io), L9 IO (io), L10 IO (io), L11 IO (io), L12 IO (io), M1 IO (io), M2 IO (io), M3 IO (io), M4 IO (io), M5 IO (io), M6 IO (io), M7 VCCA (power), M8 IO (io), M9 IO (io), M10 IO (io), M11 TDO/IO (io), M12 IO (io)

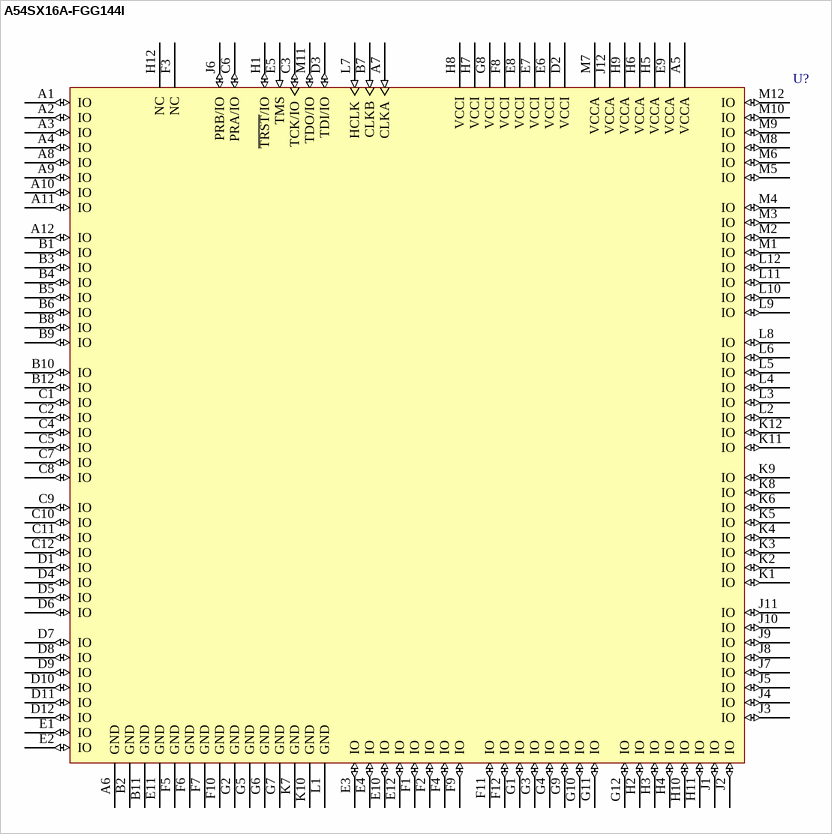
[diagram p101: symbol A54SX16A-FGG144I]

## A54SX16A-FGG144I
designator U?
A54SX16A FPGA, 111 User IOs, 144-Pin FBGA, Standard Speed Grade, Industrial Grade, Pb-Free; DatasheetVersion: v5.3, Feb-2007; PackageVersion: rev39, Aug-2010; PackageReference: FG144; PackageDescription: 144-Ball Fine Pitch Plastic Ball Grid Array (FG144); Code_JEDEC: MO-192-DAD-1; ComponentLink1Description: Manufacturer URL; ComponentLink1URL: http://www.actel.com/; ComponentLink2Description: SX-A Datasheet; ComponentLink2URL: http://www.actel.com/documents/SXA_DS.pdf; ComponentLink3Description: Package Mechanical Drawings; ComponentLink3URL: http://www.actel.com/documents/PckgMechDrwngs.pdf; ComponentLink4Description: SX-A Documents; ComponentLink4URL: http://www.actel.com/products/proasicplus/docs.aspx
footprint FG144 (BGA, 144-Leads, Body 13x13mm, Pitch 1mm)
pins: A1 IO (io), A2 IO (io), A3 IO (io), A4 IO (io), A5 VCCA (power), A6 GND (power), A7 CLKA (in), A8 IO (io), A9 IO (io), A10 IO (io), A11 IO (io), A12 IO (io), B1 IO (io), B2 GND (power), B3 IO (io), B4 IO (io), B5 IO (io), B6 IO (io), B7 CLKB (in), B8 IO (io), B9 IO (io), B10 IO (io), B11 GND (power), B12 IO (io), C1 IO (io), C2 IO (io), C3 TCK/IO (io), C4 IO (io), C5 IO (io), C6 PRA/IO (io), C7 IO (io), C8 IO (io), C9 IO (io), C10 IO (io), C11 IO (io), C12 IO (io), D1 IO (io), D2 VCCI (power), D3 TDI/IO (io), D4 IO (io), D5 IO (io), D6 IO (io), D7 IO (io), D8 IO (io), D9 IO (io), D10 IO (io), D11 IO (io), D12 IO (io), E1 IO (io), E2 IO (io), E3 IO (io), E4 IO (io), E5 TMS (in), E6 VCCI (power), E7 VCCI (power), E8 VCCI (power), E9 VCCA (power), E10 IO (io), E11 GND (power), E12 IO (io), F1 IO (io), F2 IO (io), F3 NC, F4 IO (io), F5 GND (power), F6 GND (power), F7 GND (power), F8 VCCI (power), F9 IO (io), F10 GND (power), F11 IO (io), F12 IO (io), G1 IO (io), G2 GND (power), G3 IO (io), G4 IO (io), G5 GND (power), G6 GND (power), G7 GND (power), G8 VCCI (power), G9 IO (io), G10 IO (io), G11 IO (io), G12 IO (io), H1 ~{TRST}/IO (io), H2 IO (io), H3 IO (io), H4 IO (io), H5 VCCA (power), H6 VCCA (power), H7 VCCI (power), H8 VCCI (power), H9 VCCA (power), H10 IO (io), H11 IO (io), H12 NC, J1 IO (io), J2 IO (io), J3 IO (io), J4 IO (io), J5 IO (io), J6 PRB/IO (io), J7 IO (io), J8 IO (io), J9 IO (io), J10 IO (io), J11 IO (io), J12 VCCA (power), K1 IO (io), K2 IO (io), K3 IO (io), K4 IO (io), K5 IO (io), K6 IO (io), K7 GND (power), K8 IO (io), K9 IO (io), K10 GND (power), K11 IO (io), K12 IO (io), L1 GND (power), L2 IO (io), L3 IO (io), L4 IO (io), L5 IO (io), L6 IO (io), L7 HCLK (in), L8 IO (io), L9 IO (io), L10 IO (io), L11 IO (io), L12 IO (io), M1 IO (io), M2 IO (io), M3 IO (io), M4 IO (io), M5 IO (io), M6 IO (io), M7 VCCA (power), M8 IO (io), M9 IO (io), M10 IO (io), M11 TDO/IO (io), M12 IO (io)

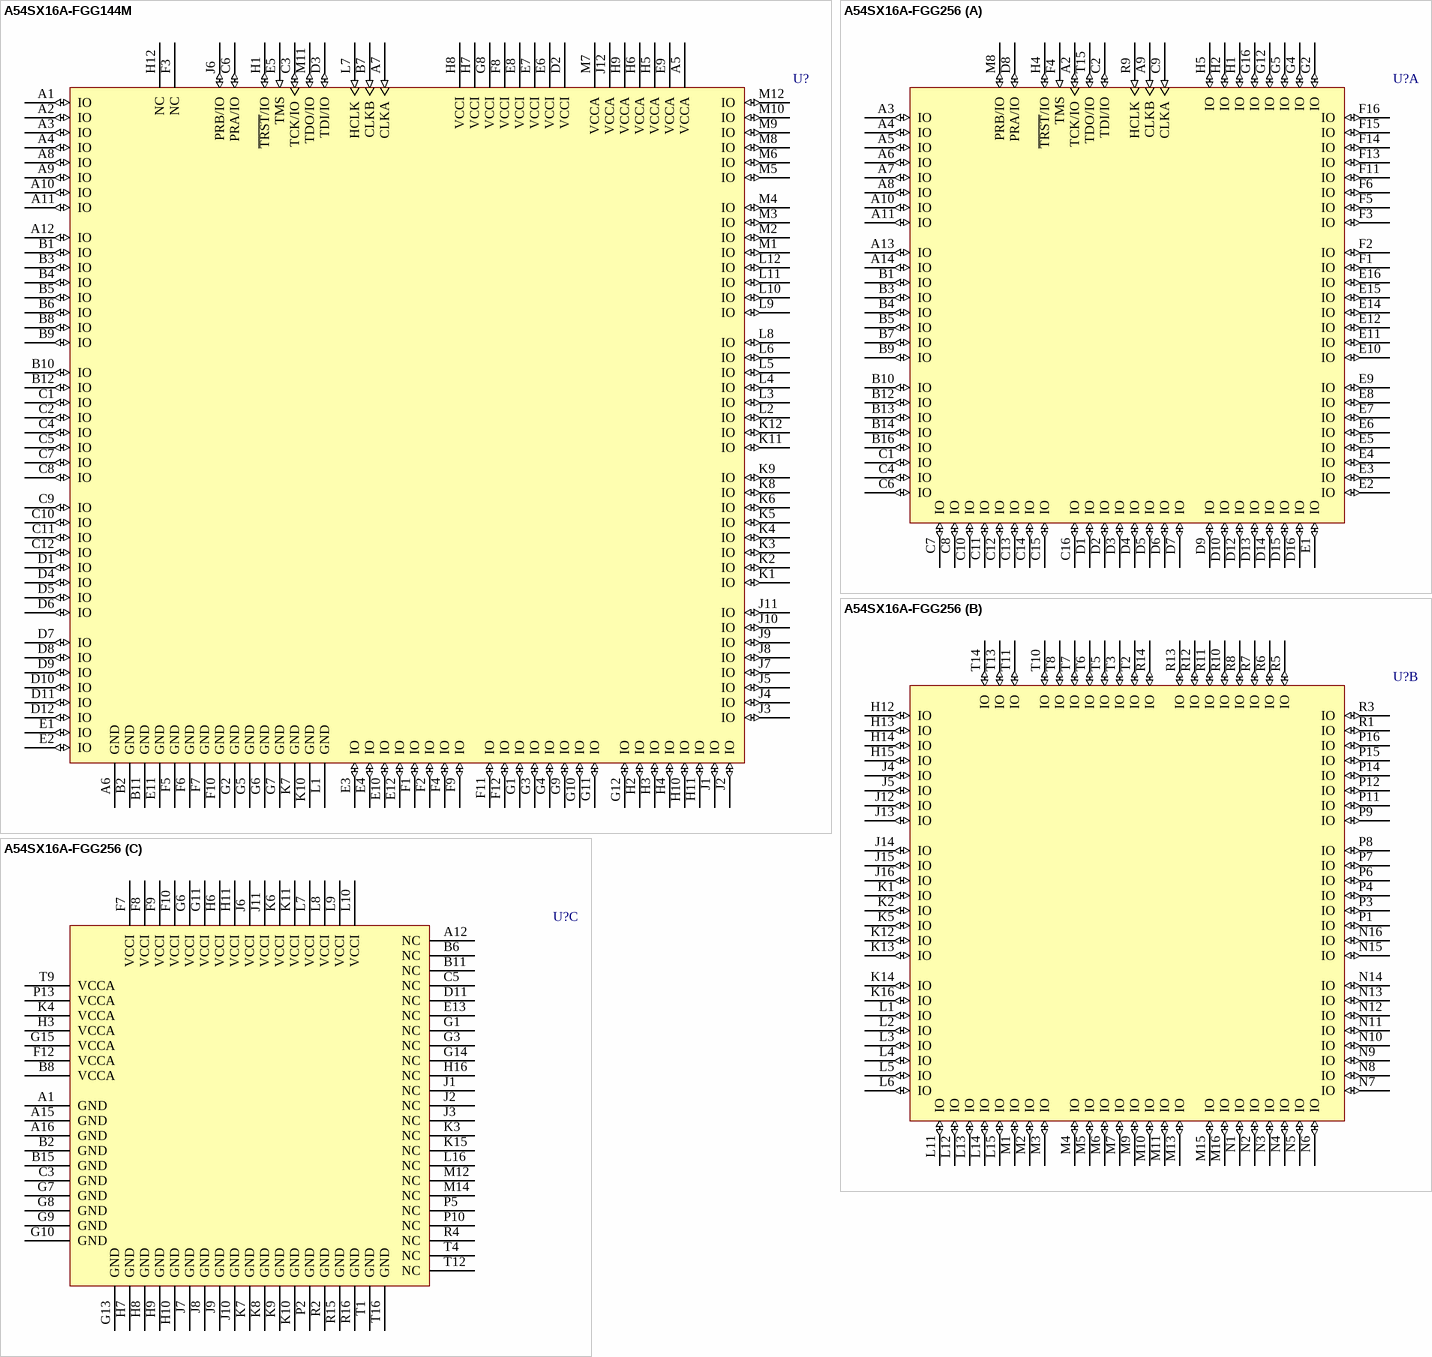
[diagram p102: symbols A54SX16A-FGG144M to A54SX16A-FGG256]

## A54SX16A-FGG144M
designator U?
A54SX16A FPGA, 111 User IOs, 144-Pin FBGA, Standard Speed Grade, Military Grade, Pb-Free; DatasheetVersion: v5.3, Feb-2007; PackageVersion: rev39, Aug-2010; PackageReference: FG144; PackageDescription: 144-Ball Fine Pitch Plastic Ball Grid Array (FG144); Code_JEDEC: MO-192-DAD-1; ComponentLink1Description: Manufacturer URL; ComponentLink1URL: http://www.actel.com/; ComponentLink2Description: SX-A Datasheet; ComponentLink2URL: http://www.actel.com/documents/SXA_DS.pdf; ComponentLink3Description: Package Mechanical Drawings; ComponentLink3URL: http://www.actel.com/documents/PckgMechDrwngs.pdf; ComponentLink4Description: SX-A Documents; ComponentLink4URL: http://www.actel.com/products/proasicplus/docs.aspx
footprint FG144 (BGA, 144-Leads, Body 13x13mm, Pitch 1mm)
pins: A1 IO (io), A2 IO (io), A3 IO (io), A4 IO (io), A5 VCCA (power), A6 GND (power), A7 CLKA (in), A8 IO (io), A9 IO (io), A10 IO (io), A11 IO (io), A12 IO (io), B1 IO (io), B2 GND (power), B3 IO (io), B4 IO (io), B5 IO (io), B6 IO (io), B7 CLKB (in), B8 IO (io), B9 IO (io), B10 IO (io), B11 GND (power), B12 IO (io), C1 IO (io), C2 IO (io), C3 TCK/IO (io), C4 IO (io), C5 IO (io), C6 PRA/IO (io), C7 IO (io), C8 IO (io), C9 IO (io), C10 IO (io), C11 IO (io), C12 IO (io), D1 IO (io), D2 VCCI (power), D3 TDI/IO (io), D4 IO (io), D5 IO (io), D6 IO (io), D7 IO (io), D8 IO (io), D9 IO (io), D10 IO (io), D11 IO (io), D12 IO (io), E1 IO (io), E2 IO (io), E3 IO (io), E4 IO (io), E5 TMS (in), E6 VCCI (power), E7 VCCI (power), E8 VCCI (power), E9 VCCA (power), E10 IO (io), E11 GND (power), E12 IO (io), F1 IO (io), F2 IO (io), F3 NC, F4 IO (io), F5 GND (power), F6 GND (power), F7 GND (power), F8 VCCI (power), F9 IO (io), F10 GND (power), F11 IO (io), F12 IO (io), G1 IO (io), G2 GND (power), G3 IO (io), G4 IO (io), G5 GND (power), G6 GND (power), G7 GND (power), G8 VCCI (power), G9 IO (io), G10 IO (io), G11 IO (io), G12 IO (io), H1 ~{TRST}/IO (io), H2 IO (io), H3 IO (io), H4 IO (io), H5 VCCA (power), H6 VCCA (power), H7 VCCI (power), H8 VCCI (power), H9 VCCA (power), H10 IO (io), H11 IO (io), H12 NC, J1 IO (io), J2 IO (io), J3 IO (io), J4 IO (io), J5 IO (io), J6 PRB/IO (io), J7 IO (io), J8 IO (io), J9 IO (io), J10 IO (io), J11 IO (io), J12 VCCA (power), K1 IO (io), K2 IO (io), K3 IO (io), K4 IO (io), K5 IO (io), K6 IO (io), K7 GND (power), K8 IO (io), K9 IO (io), K10 GND (power), K11 IO (io), K12 IO (io), L1 GND (power), L2 IO (io), L3 IO (io), L4 IO (io), L5 IO (io), L6 IO (io), L7 HCLK (in), L8 IO (io), L9 IO (io), L10 IO (io), L11 IO (io), L12 IO (io), M1 IO (io), M2 IO (io), M3 IO (io), M4 IO (io), M5 IO (io), M6 IO (io), M7 VCCA (power), M8 IO (io), M9 IO (io), M10 IO (io), M11 TDO/IO (io), M12 IO (io)

## A54SX16A-FGG256
designator U?
A54SX16A FPGA, 180 User IOs, 256-Pin FBGA, Standard Speed Grade, Commercial Grade, Pb-Free; DatasheetVersion: v5.3, Feb-2007; PackageVersion: rev39, Aug-2010; PackageReference: FBGA256; PackageDescription: 256-Ball Fine Pitch Plastic Ball Grid Array 1.00 mm Pitch (FG256); Code_JEDEC: MS-034-AAF-1; ComponentLink1Description: Manufacturer URL; ComponentLink1URL: http://www.actel.com/; ComponentLink2Description: SX-A Datasheet; ComponentLink2URL: http://www.actel.com/documents/SXA_DS.pdf; ComponentLink3Description: Package Mechanical Drawings; ComponentLink3URL: http://www.actel.com/documents/PckgMechDrwngs.pdf; ComponentLink4Description: SX-A Documents; ComponentLink4URL: http://www.actel.com/products/proasicplus/docs.aspx
footprint FBGA256 (BGA, 256-Leads, Body 17x17mm, Pitch 1mm)
part A pins: A2 TCK/IO (io), A3 IO (io), A4 IO (io), A5 IO (io), A6 IO (io), A7 IO (io), A8 IO (io), A9 CLKB (in), A10 IO (io), A11 IO (io), A13 IO (io), A14 IO (io), B1 IO (io), B3 IO (io), B4 IO (io), B5 IO (io), B7 IO (io), B9 IO (io), B10 IO (io), B12 IO (io), B13 IO (io), B14 IO (io), B16 IO (io), C1 IO (io), C2 TDI/IO (io), C4 IO (io), C6 IO (io), C7 IO (io), C8 IO (io), C9 CLKA (in), C10 IO (io), C11 IO (io), C12 IO (io), C13 IO (io), C14 IO (io), C15 IO (io), C16 IO (io), D1 IO (io), D2 IO (io), D3 IO (io), D4 IO (io), D5 IO (io), D6 IO (io), D7 IO (io), D8 PRA/IO (io), D9 IO (io), D10 IO (io), D12 IO (io), D13 IO (io), D14 IO (io), D15 IO (io), D16 IO (io), E1 IO (io), E2 IO (io), E3 IO (io), E4 IO (io), E5 IO (io), E6 IO (io), E7 IO (io), E8 IO (io), E9 IO (io), E10 IO (io), E11 IO (io), E12 IO (io), E14 IO (io), E15 IO (io), E16 IO (io), F1 IO (io), F2 IO (io), F3 IO (io), F4 TMS (in), F5 IO (io), F6 IO (io), F11 IO (io), F13 IO (io), F14 IO (io), F15 IO (io), F16 IO (io), G2 IO (io), G4 IO (io), G5 IO (io), G12 IO (io), G16 IO (io), H1 IO (io), H2 IO (io), H4 ~{TRST}/IO (io), H5 IO (io), M8 PRB/IO (io), R9 HCLK (in), T15 TDO/IO (io)
part B pins: H12 IO (io), H13 IO (io), H14 IO (io), H15 IO (io), J4 IO (io), J5 IO (io), J12 IO (io), J13 IO (io), J14 IO (io), J15 IO (io), J16 IO (io), K1 IO (io), K2 IO (io), K5 IO (io), K12 IO (io), K13 IO (io), K14 IO (io), K16 IO (io), L1 IO (io), L2 IO (io), L3 IO (io), L4 IO (io), L5 IO (io), L6 IO (io), L11 IO (io), L12 IO (io), L13 IO (io), L14 IO (io), L15 IO (io), M1 IO (io), M2 IO (io), M3 IO (io), M4 IO (io), M5 IO (io), M6 IO (io), M7 IO (io), M9 IO (io), M10 IO (io), M11 IO (io), M13 IO (io), M15 IO (io), M16 IO (io), N1 IO (io), N2 IO (io), N3 IO (io), N4 IO (io), N5 IO (io), N6 IO (io), N7 IO (io), N8 IO (io), N9 IO (io), N10 IO (io), N11 IO (io), N12 IO (io), N13 IO (io), N14 IO (io), N15 IO (io), N16 IO (io), P1 IO (io), P3 IO (io), P4 IO (io), P6 IO (io), P7 IO (io), P8 IO (io), P9 IO (io), P11 IO (io), P12 IO (io), P14 IO (io), P15 IO (io), P16 IO (io), R1 IO (io), R3 IO (io), R5 IO (io), R6 IO (io), R7 IO (io), R8 IO (io), R10 IO (io), R11 IO (io), R12 IO (io), R13 IO (io), R14 IO (io), T2 IO (io), T3 IO (io), T5 IO (io), T6 IO (io), T7 IO (io), T8 IO (io), T10 IO (io), T11 IO (io), T13 IO (io), T14 IO (io)
part C pins: A1 GND (power), A12 NC, A15 GND (power), A16 GND (power), B2 GND (power), B6 NC, B8 VCCA (power), B11 NC, B15 GND (power), C3 GND (power), C5 NC, D11 NC, E13 NC, F7 VCCI (power), F8 VCCI (power), F9 VCCI (power), F10 VCCI (power), F12 VCCA (power), G1 NC, G3 NC, G6 VCCI (power), G7 GND (power), G8 GND (power), G9 GND (power), G10 GND (power), G11 VCCI (power), G13 GND (power), G14 NC, G15 VCCA (power), H3 VCCA (power), H6 VCCI (power), H7 GND (power), H8 GND (power), H9 GND (power), H10 GND (power), H11 VCCI (power), H16 NC, J1 NC, J2 NC, J3 NC, J6 VCCI (power), J7 GND (power), J8 GND (power), J9 GND (power), J10 GND (power), J11 VCCI (power), K3 NC, K4 VCCA (power), K6 VCCI (power), K7 GND (power), K8 GND (power), K9 GND (power), K10 GND (power), K11 VCCI (power), K15 NC, L7 VCCI (power), L8 VCCI (power), L9 VCCI (power), L10 VCCI (power), L16 NC, M12 NC, M14 NC, P2 GND (power), P5 NC, P10 NC, P13 VCCA (power), R2 GND (power), R4 NC, R15 GND (power), R16 GND (power), T1 GND (power), T4 NC, T9 VCCA (power), T12 NC, T16 GND (power)

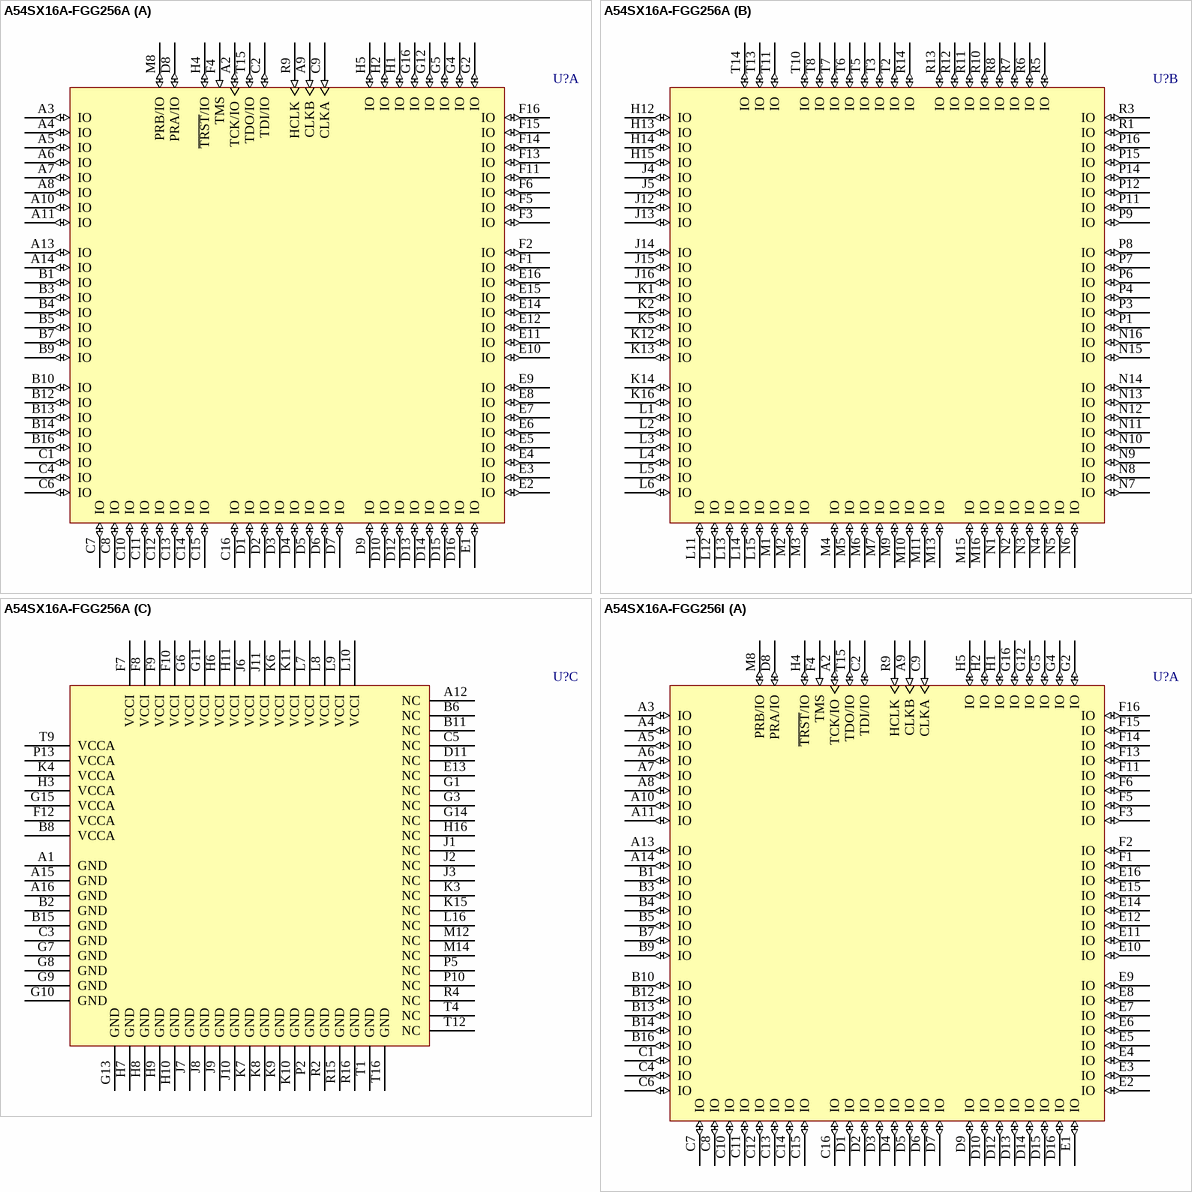
[diagram p103: symbols A54SX16A-FGG256A to A54SX16A-FGG256I]

## A54SX16A-FGG256A
designator U?
A54SX16A FPGA, 180 User IOs, 256-Pin FBGA, Standard Speed Grade, Automotive Grade, Pb-Free; DatasheetVersion: v5.3, Feb-2007; PackageVersion: rev39, Aug-2010; PackageReference: FBGA256; PackageDescription: 256-Ball Fine Pitch Plastic Ball Grid Array 1.00 mm Pitch (FG256); Code_JEDEC: MS-034-AAF-1; ComponentLink1Description: Manufacturer URL; ComponentLink1URL: http://www.actel.com/; ComponentLink2Description: SX-A Datasheet; ComponentLink2URL: http://www.actel.com/documents/SXA_DS.pdf; ComponentLink3Description: Package Mechanical Drawings; ComponentLink3URL: http://www.actel.com/documents/PckgMechDrwngs.pdf; ComponentLink4Description: SX-A Documents; ComponentLink4URL: http://www.actel.com/products/proasicplus/docs.aspx
footprint FBGA256 (BGA, 256-Leads, Body 17x17mm, Pitch 1mm)
part A pins: A2 TCK/IO (io), A3 IO (io), A4 IO (io), A5 IO (io), A6 IO (io), A7 IO (io), A8 IO (io), A9 CLKB (in), A10 IO (io), A11 IO (io), A13 IO (io), A14 IO (io), B1 IO (io), B3 IO (io), B4 IO (io), B5 IO (io), B7 IO (io), B9 IO (io), B10 IO (io), B12 IO (io), B13 IO (io), B14 IO (io), B16 IO (io), C1 IO (io), C2 TDI/IO (io), C4 IO (io), C6 IO (io), C7 IO (io), C8 IO (io), C9 CLKA (in), C10 IO (io), C11 IO (io), C12 IO (io), C13 IO (io), C14 IO (io), C15 IO (io), C16 IO (io), D1 IO (io), D2 IO (io), D3 IO (io), D4 IO (io), D5 IO (io), D6 IO (io), D7 IO (io), D8 PRA/IO (io), D9 IO (io), D10 IO (io), D12 IO (io), D13 IO (io), D14 IO (io), D15 IO (io), D16 IO (io), E1 IO (io), E2 IO (io), E3 IO (io), E4 IO (io), E5 IO (io), E6 IO (io), E7 IO (io), E8 IO (io), E9 IO (io), E10 IO (io), E11 IO (io), E12 IO (io), E14 IO (io), E15 IO (io), E16 IO (io), F1 IO (io), F2 IO (io), F3 IO (io), F4 TMS (in), F5 IO (io), F6 IO (io), F11 IO (io), F13 IO (io), F14 IO (io), F15 IO (io), F16 IO (io), G2 IO (io), G4 IO (io), G5 IO (io), G12 IO (io), G16 IO (io), H1 IO (io), H2 IO (io), H4 ~{TRST}/IO (io), H5 IO (io), M8 PRB/IO (io), R9 HCLK (in), T15 TDO/IO (io)
part B pins: H12 IO (io), H13 IO (io), H14 IO (io), H15 IO (io), J4 IO (io), J5 IO (io), J12 IO (io), J13 IO (io), J14 IO (io), J15 IO (io), J16 IO (io), K1 IO (io), K2 IO (io), K5 IO (io), K12 IO (io), K13 IO (io), K14 IO (io), K16 IO (io), L1 IO (io), L2 IO (io), L3 IO (io), L4 IO (io), L5 IO (io), L6 IO (io), L11 IO (io), L12 IO (io), L13 IO (io), L14 IO (io), L15 IO (io), M1 IO (io), M2 IO (io), M3 IO (io), M4 IO (io), M5 IO (io), M6 IO (io), M7 IO (io), M9 IO (io), M10 IO (io), M11 IO (io), M13 IO (io), M15 IO (io), M16 IO (io), N1 IO (io), N2 IO (io), N3 IO (io), N4 IO (io), N5 IO (io), N6 IO (io), N7 IO (io), N8 IO (io), N9 IO (io), N10 IO (io), N11 IO (io), N12 IO (io), N13 IO (io), N14 IO (io), N15 IO (io), N16 IO (io), P1 IO (io), P3 IO (io), P4 IO (io), P6 IO (io), P7 IO (io), P8 IO (io), P9 IO (io), P11 IO (io), P12 IO (io), P14 IO (io), P15 IO (io), P16 IO (io), R1 IO (io), R3 IO (io), R5 IO (io), R6 IO (io), R7 IO (io), R8 IO (io), R10 IO (io), R11 IO (io), R12 IO (io), R13 IO (io), R14 IO (io), T2 IO (io), T3 IO (io), T5 IO (io), T6 IO (io), T7 IO (io), T8 IO (io), T10 IO (io), T11 IO (io), T13 IO (io), T14 IO (io)
part C pins: A1 GND (power), A12 NC, A15 GND (power), A16 GND (power), B2 GND (power), B6 NC, B8 VCCA (power), B11 NC, B15 GND (power), C3 GND (power), C5 NC, D11 NC, E13 NC, F7 VCCI (power), F8 VCCI (power), F9 VCCI (power), F10 VCCI (power), F12 VCCA (power), G1 NC, G3 NC, G6 VCCI (power), G7 GND (power), G8 GND (power), G9 GND (power), G10 GND (power), G11 VCCI (power), G13 GND (power), G14 NC, G15 VCCA (power), H3 VCCA (power), H6 VCCI (power), H7 GND (power), H8 GND (power), H9 GND (power), H10 GND (power), H11 VCCI (power), H16 NC, J1 NC, J2 NC, J3 NC, J6 VCCI (power), J7 GND (power), J8 GND (power), J9 GND (power), J10 GND (power), J11 VCCI (power), K3 NC, K4 VCCA (power), K6 VCCI (power), K7 GND (power), K8 GND (power), K9 GND (power), K10 GND (power), K11 VCCI (power), K15 NC, L7 VCCI (power), L8 VCCI (power), L9 VCCI (power), L10 VCCI (power), L16 NC, M12 NC, M14 NC, P2 GND (power), P5 NC, P10 NC, P13 VCCA (power), R2 GND (power), R4 NC, R15 GND (power), R16 GND (power), T1 GND (power), T4 NC, T9 VCCA (power), T12 NC, T16 GND (power)

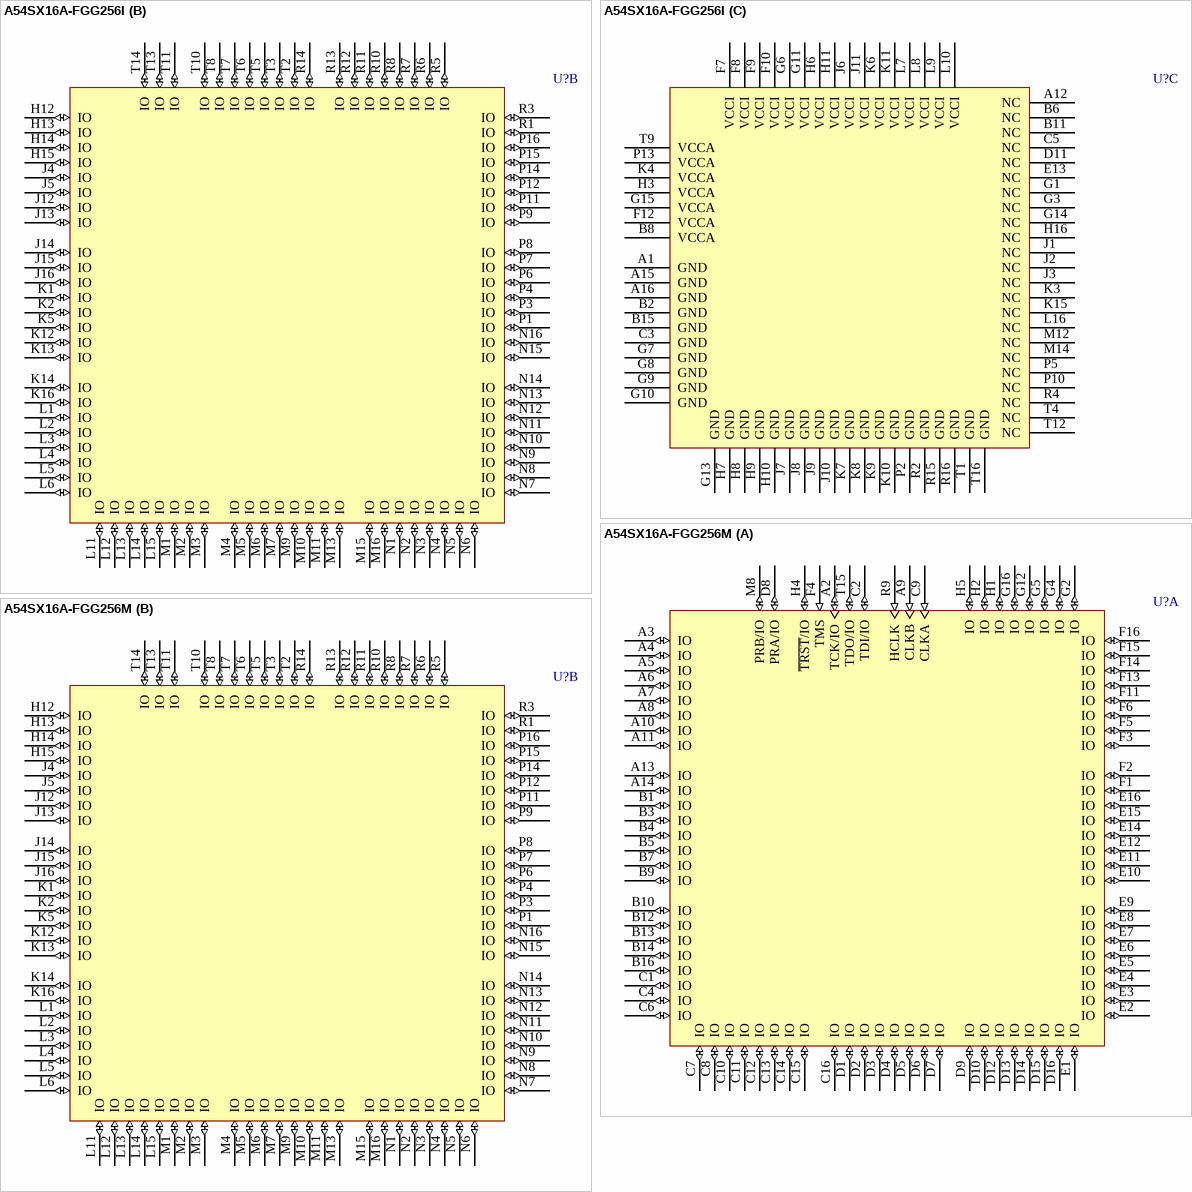
[diagram p104: symbols A54SX16A-FGG256I to A54SX16A-FGG256M]

## A54SX16A-FGG256I
designator U?
A54SX16A FPGA, 180 User IOs, 256-Pin FBGA, Standard Speed Grade, Industrial Grade, Pb-Free; DatasheetVersion: v5.3, Feb-2007; PackageVersion: rev39, Aug-2010; PackageReference: FBGA256; PackageDescription: 256-Ball Fine Pitch Plastic Ball Grid Array 1.00 mm Pitch (FG256); Code_JEDEC: MS-034-AAF-1; ComponentLink1Description: Manufacturer URL; ComponentLink1URL: http://www.actel.com/; ComponentLink2Description: SX-A Datasheet; ComponentLink2URL: http://www.actel.com/documents/SXA_DS.pdf; ComponentLink3Description: Package Mechanical Drawings; ComponentLink3URL: http://www.actel.com/documents/PckgMechDrwngs.pdf; ComponentLink4Description: SX-A Documents; ComponentLink4URL: http://www.actel.com/products/proasicplus/docs.aspx
footprint FBGA256 (BGA, 256-Leads, Body 17x17mm, Pitch 1mm)
part A pins: A2 TCK/IO (io), A3 IO (io), A4 IO (io), A5 IO (io), A6 IO (io), A7 IO (io), A8 IO (io), A9 CLKB (in), A10 IO (io), A11 IO (io), A13 IO (io), A14 IO (io), B1 IO (io), B3 IO (io), B4 IO (io), B5 IO (io), B7 IO (io), B9 IO (io), B10 IO (io), B12 IO (io), B13 IO (io), B14 IO (io), B16 IO (io), C1 IO (io), C2 TDI/IO (io), C4 IO (io), C6 IO (io), C7 IO (io), C8 IO (io), C9 CLKA (in), C10 IO (io), C11 IO (io), C12 IO (io), C13 IO (io), C14 IO (io), C15 IO (io), C16 IO (io), D1 IO (io), D2 IO (io), D3 IO (io), D4 IO (io), D5 IO (io), D6 IO (io), D7 IO (io), D8 PRA/IO (io), D9 IO (io), D10 IO (io), D12 IO (io), D13 IO (io), D14 IO (io), D15 IO (io), D16 IO (io), E1 IO (io), E2 IO (io), E3 IO (io), E4 IO (io), E5 IO (io), E6 IO (io), E7 IO (io), E8 IO (io), E9 IO (io), E10 IO (io), E11 IO (io), E12 IO (io), E14 IO (io), E15 IO (io), E16 IO (io), F1 IO (io), F2 IO (io), F3 IO (io), F4 TMS (in), F5 IO (io), F6 IO (io), F11 IO (io), F13 IO (io), F14 IO (io), F15 IO (io), F16 IO (io), G2 IO (io), G4 IO (io), G5 IO (io), G12 IO (io), G16 IO (io), H1 IO (io), H2 IO (io), H4 ~{TRST}/IO (io), H5 IO (io), M8 PRB/IO (io), R9 HCLK (in), T15 TDO/IO (io)
part B pins: H12 IO (io), H13 IO (io), H14 IO (io), H15 IO (io), J4 IO (io), J5 IO (io), J12 IO (io), J13 IO (io), J14 IO (io), J15 IO (io), J16 IO (io), K1 IO (io), K2 IO (io), K5 IO (io), K12 IO (io), K13 IO (io), K14 IO (io), K16 IO (io), L1 IO (io), L2 IO (io), L3 IO (io), L4 IO (io), L5 IO (io), L6 IO (io), L11 IO (io), L12 IO (io), L13 IO (io), L14 IO (io), L15 IO (io), M1 IO (io), M2 IO (io), M3 IO (io), M4 IO (io), M5 IO (io), M6 IO (io), M7 IO (io), M9 IO (io), M10 IO (io), M11 IO (io), M13 IO (io), M15 IO (io), M16 IO (io), N1 IO (io), N2 IO (io), N3 IO (io), N4 IO (io), N5 IO (io), N6 IO (io), N7 IO (io), N8 IO (io), N9 IO (io), N10 IO (io), N11 IO (io), N12 IO (io), N13 IO (io), N14 IO (io), N15 IO (io), N16 IO (io), P1 IO (io), P3 IO (io), P4 IO (io), P6 IO (io), P7 IO (io), P8 IO (io), P9 IO (io), P11 IO (io), P12 IO (io), P14 IO (io), P15 IO (io), P16 IO (io), R1 IO (io), R3 IO (io), R5 IO (io), R6 IO (io), R7 IO (io), R8 IO (io), R10 IO (io), R11 IO (io), R12 IO (io), R13 IO (io), R14 IO (io), T2 IO (io), T3 IO (io), T5 IO (io), T6 IO (io), T7 IO (io), T8 IO (io), T10 IO (io), T11 IO (io), T13 IO (io), T14 IO (io)
part C pins: A1 GND (power), A12 NC, A15 GND (power), A16 GND (power), B2 GND (power), B6 NC, B8 VCCA (power), B11 NC, B15 GND (power), C3 GND (power), C5 NC, D11 NC, E13 NC, F7 VCCI (power), F8 VCCI (power), F9 VCCI (power), F10 VCCI (power), F12 VCCA (power), G1 NC, G3 NC, G6 VCCI (power), G7 GND (power), G8 GND (power), G9 GND (power), G10 GND (power), G11 VCCI (power), G13 GND (power), G14 NC, G15 VCCA (power), H3 VCCA (power), H6 VCCI (power), H7 GND (power), H8 GND (power), H9 GND (power), H10 GND (power), H11 VCCI (power), H16 NC, J1 NC, J2 NC, J3 NC, J6 VCCI (power), J7 GND (power), J8 GND (power), J9 GND (power), J10 GND (power), J11 VCCI (power), K3 NC, K4 VCCA (power), K6 VCCI (power), K7 GND (power), K8 GND (power), K9 GND (power), K10 GND (power), K11 VCCI (power), K15 NC, L7 VCCI (power), L8 VCCI (power), L9 VCCI (power), L10 VCCI (power), L16 NC, M12 NC, M14 NC, P2 GND (power), P5 NC, P10 NC, P13 VCCA (power), R2 GND (power), R4 NC, R15 GND (power), R16 GND (power), T1 GND (power), T4 NC, T9 VCCA (power), T12 NC, T16 GND (power)

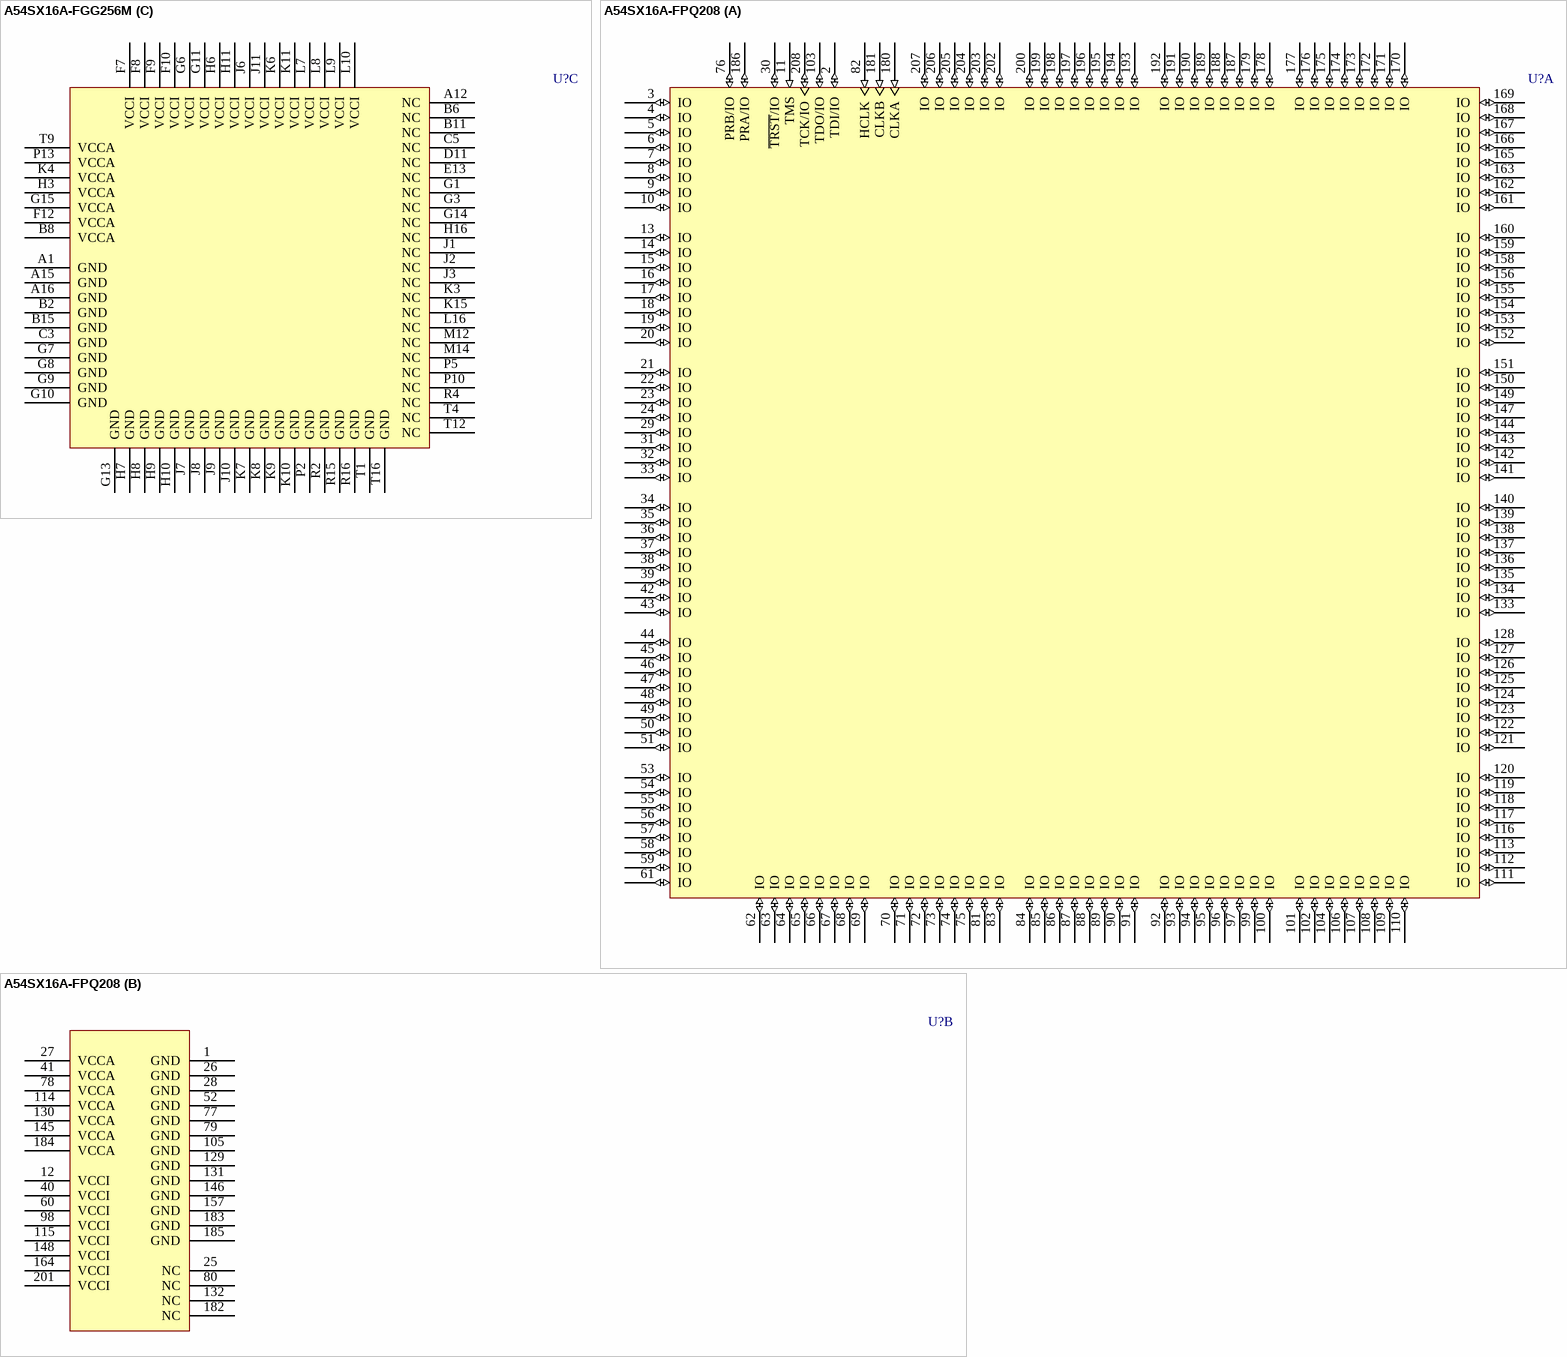
[diagram p105: symbols A54SX16A-FGG256M to A54SX16A-FPQ208]